# Altium integrated library Actel ProASIC3L.IntLib: 248 symbols (part 1 of 41)
Pins are listed as number, name and electrical type; pins without a type are passive.

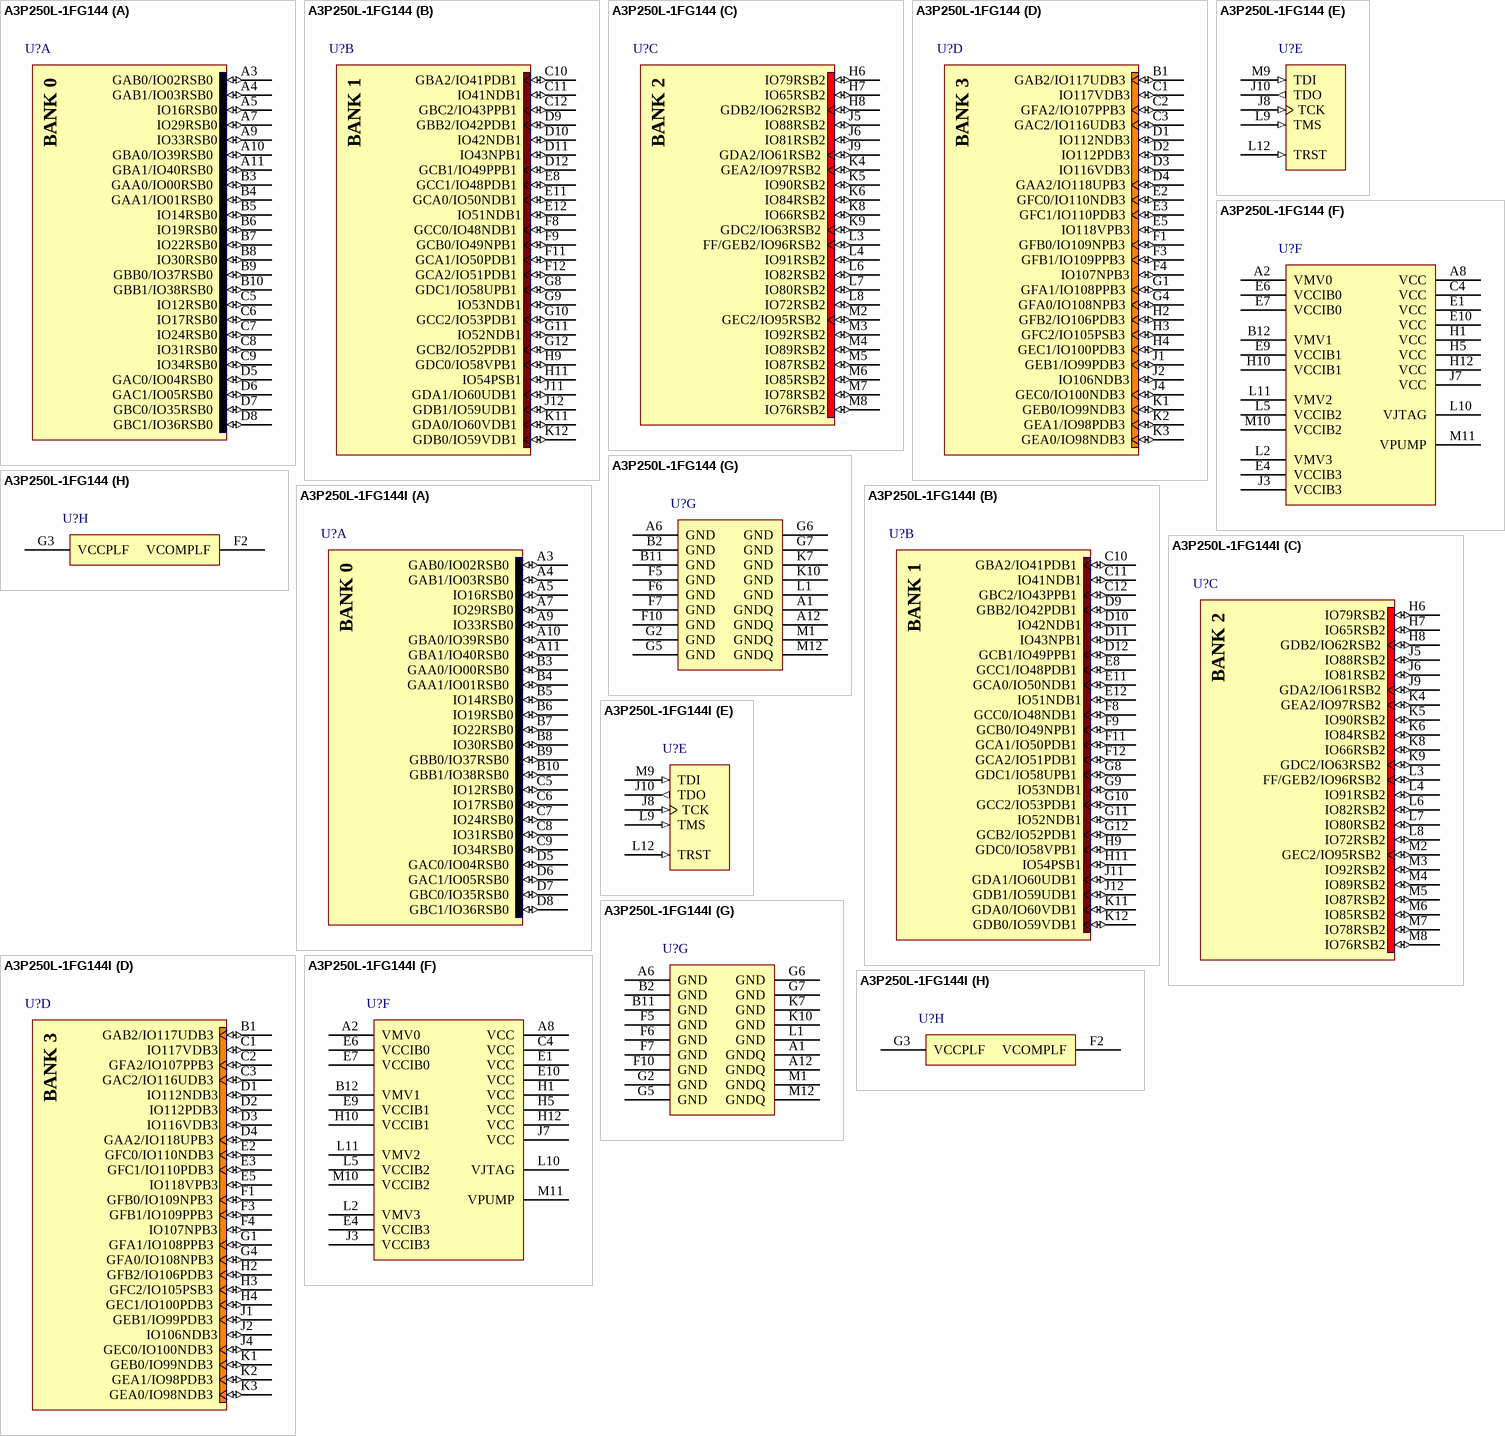
[diagram p0: symbols A3P250L-1FG144 to A3P250L-1FG144I]

## A3P250L-1FG144
designator U?
ProASIC3L Low-Power Flash Family FPGA, 97 User IOs, 250K System Gates, 36 Kbits RAM, 1 Kbit FlashROM, 1PLL, 144-Ball FBGA, Commercial Grade; Published: 30-May-2008; DatasheetVersion: Jan-2008; PackageVersion: v10.0, Mar-2008; PackageReference: FG144; Publisher: Altium Limited; PackageDescription: 144-Ball Fine Pitch Plastic Ball Grid Array (FG144); Code_JEDEC: MS-034-AAP-1; ComponentLink1Description: Manufacturer Link; ComponentLink1URL: http://www.actel.com/products/pa3l/default.aspx; ComponentLink2Description: Datasheet; ComponentLink2URL: http://www.actel.com/documents/PA3L_DS.pdf; ComponentLink3Description: Packaging Specification; ComponentLink3URL: http://www.actel.com/documents/PckgMechDrwngs.pdf
footprint FG144 (BGA, 144-Leads, Body 13x13mm, Pitch 1mm)
3D model A3P250L-FG144 (144-Ball Fine Pitch Plastic Ball Grid Array (FG144))
signal-integrity model A3P250L_FG144 (ProASIC3L)
part A pins: A3 GAB0/IO02RSB0 (io), A4 GAB1/IO03RSB0 (io), A5 IO16RSB0 (io), A7 IO29RSB0 (io), A9 IO33RSB0 (io), A10 GBA0/IO39RSB0 (io), A11 GBA1/IO40RSB0 (io), B3 GAA0/IO00RSB0 (io), B4 GAA1/IO01RSB0 (io), B5 IO14RSB0 (io), B6 IO19RSB0 (io), B7 IO22RSB0 (io), B8 IO30RSB0 (io), B9 GBB0/IO37RSB0 (io), B10 GBB1/IO38RSB0 (io), C5 IO12RSB0 (io), C6 IO17RSB0 (io), C7 IO24RSB0 (io), C8 IO31RSB0 (io), C9 IO34RSB0 (io), D5 GAC0/IO04RSB0 (io), D6 GAC1/IO05RSB0 (io), D7 GBC0/IO35RSB0 (io), D8 GBC1/IO36RSB0 (io)
part B pins: C10 GBA2/IO41PDB1 (io), C11 IO41NDB1 (io), C12 GBC2/IO43PPB1 (io), D9 GBB2/IO42PDB1 (io), D10 IO42NDB1 (io), D11 IO43NPB1 (io), D12 GCB1/IO49PPB1 (io), E8 GCC1/IO48PDB1 (io), E11 GCA0/IO50NDB1 (io), E12 IO51NDB1 (io), F8 GCC0/IO48NDB1 (io), F9 GCB0/IO49NPB1 (io), F11 GCA1/IO50PDB1 (io), F12 GCA2/IO51PDB1 (io), G8 GDC1/IO58UPB1 (io), G9 IO53NDB1 (io), G10 GCC2/IO53PDB1 (io), G11 IO52NDB1 (io), G12 GCB2/IO52PDB1 (io), H9 GDC0/IO58VPB1 (io), H11 IO54PSB1 (io), J11 GDA1/IO60UDB1 (io), J12 GDB1/IO59UDB1 (io), K11 GDA0/IO60VDB1 (io), K12 GDB0/IO59VDB1 (io)
part C pins: H6 IO79RSB2 (io), H7 IO65RSB2 (io), H8 GDB2/IO62RSB2 (io), J5 IO88RSB2 (io), J6 IO81RSB2 (io), J9 GDA2/IO61RSB2 (io), K4 GEA2/IO97RSB2 (io), K5 IO90RSB2 (io), K6 IO84RSB2 (io), K8 IO66RSB2 (io), K9 GDC2/IO63RSB2 (io), L3 FF/GEB2/IO96RSB2 (io), L4 IO91RSB2 (io), L6 IO82RSB2 (io), L7 IO80RSB2 (io), L8 IO72RSB2 (io), M2 GEC2/IO95RSB2 (io), M3 IO92RSB2 (io), M4 IO89RSB2 (io), M5 IO87RSB2 (io), M6 IO85RSB2 (io), M7 IO78RSB2 (io), M8 IO76RSB2 (io)
part D pins: B1 GAB2/IO117UDB3 (io), C1 IO117VDB3 (io), C2 GFA2/IO107PPB3 (io), C3 GAC2/IO116UDB3 (io), D1 IO112NDB3 (io), D2 IO112PDB3 (io), D3 IO116VDB3 (io), D4 GAA2/IO118UPB3 (io), E2 GFC0/IO110NDB3 (io), E3 GFC1/IO110PDB3 (io), E5 IO118VPB3 (io), F1 GFB0/IO109NPB3 (io), F3 GFB1/IO109PPB3 (io), F4 IO107NPB3 (io), G1 GFA1/IO108PPB3 (io), G4 GFA0/IO108NPB3 (io), H2 GFB2/IO106PDB3 (io), H3 GFC2/IO105PSB3 (io), H4 GEC1/IO100PDB3 (io), J1 GEB1/IO99PDB3 (io), J2 IO106NDB3 (io), J4 GEC0/IO100NDB3 (io), K1 GEB0/IO99NDB3 (io), K2 GEA1/IO98PDB3 (io), K3 GEA0/IO98NDB3 (io)
part E pins: J8 TCK (in), J10 TDO (out), L9 TMS (in), L12 TRST (in), M9 TDI (in)
part F pins: A2 VMV0 (power), A8 VCC (power), B12 VMV1 (power), C4 VCC (power), E1 VCC (power), E4 VCCIB3 (power), E6 VCCIB0 (power), E7 VCCIB0 (power), E9 VCCIB1 (power), E10 VCC (power), H1 VCC (power), H5 VCC (power), H10 VCCIB1 (power), H12 VCC (power), J3 VCCIB3 (power), J7 VCC (power), L2 VMV3 (power), L5 VCCIB2 (power), L10 VJTAG (power), L11 VMV2 (power), M10 VCCIB2 (power), M11 VPUMP (power)
part G pins: A1 GNDQ (power), A6 GND (power), A12 GNDQ (power), B2 GND (power), B11 GND (power), F5 GND (power), F6 GND (power), F7 GND (power), F10 GND (power), G2 GND (power), G5 GND (power), G6 GND (power), G7 GND (power), K7 GND (power), K10 GND (power), L1 GND (power), M1 GNDQ (power), M12 GNDQ (power)
part H pins: F2 VCOMPLF (power), G3 VCCPLF (power)
part A text: BANK 0
part B text: BANK 1
part C text: BANK 2
part D text: BANK 3

## A3P250L-1FG144I
designator U?
ProASIC3L Low-Power Flash Family FPGA, 97 User IOs, 250K System Gates, 36 Kbits RAM, 1 Kbit FlashROM, 1PLL, 144-Ball FBGA, Industrial Grade; Published: 30-May-2008; DatasheetVersion: Jan-2008; PackageVersion: v10.0, Mar-2008; PackageReference: FG144; Publisher: Altium Limited; PackageDescription: 144-Ball Fine Pitch Plastic Ball Grid Array (FG144); Code_JEDEC: MS-034-AAP-1; ComponentLink1Description: Manufacturer Link; ComponentLink1URL: http://www.actel.com/products/pa3l/default.aspx; ComponentLink2Description: Datasheet; ComponentLink2URL: http://www.actel.com/documents/PA3L_DS.pdf; ComponentLink3Description: Packaging Specification; ComponentLink3URL: http://www.actel.com/documents/PckgMechDrwngs.pdf
footprint FG144 (BGA, 144-Leads, Body 13x13mm, Pitch 1mm)
3D model A3P250L-FG144 (144-Ball Fine Pitch Plastic Ball Grid Array (FG144))
signal-integrity model A3P250L_FG144 (ProASIC3L)
part A pins: A3 GAB0/IO02RSB0 (io), A4 GAB1/IO03RSB0 (io), A5 IO16RSB0 (io), A7 IO29RSB0 (io), A9 IO33RSB0 (io), A10 GBA0/IO39RSB0 (io), A11 GBA1/IO40RSB0 (io), B3 GAA0/IO00RSB0 (io), B4 GAA1/IO01RSB0 (io), B5 IO14RSB0 (io), B6 IO19RSB0 (io), B7 IO22RSB0 (io), B8 IO30RSB0 (io), B9 GBB0/IO37RSB0 (io), B10 GBB1/IO38RSB0 (io), C5 IO12RSB0 (io), C6 IO17RSB0 (io), C7 IO24RSB0 (io), C8 IO31RSB0 (io), C9 IO34RSB0 (io), D5 GAC0/IO04RSB0 (io), D6 GAC1/IO05RSB0 (io), D7 GBC0/IO35RSB0 (io), D8 GBC1/IO36RSB0 (io)
part B pins: C10 GBA2/IO41PDB1 (io), C11 IO41NDB1 (io), C12 GBC2/IO43PPB1 (io), D9 GBB2/IO42PDB1 (io), D10 IO42NDB1 (io), D11 IO43NPB1 (io), D12 GCB1/IO49PPB1 (io), E8 GCC1/IO48PDB1 (io), E11 GCA0/IO50NDB1 (io), E12 IO51NDB1 (io), F8 GCC0/IO48NDB1 (io), F9 GCB0/IO49NPB1 (io), F11 GCA1/IO50PDB1 (io), F12 GCA2/IO51PDB1 (io), G8 GDC1/IO58UPB1 (io), G9 IO53NDB1 (io), G10 GCC2/IO53PDB1 (io), G11 IO52NDB1 (io), G12 GCB2/IO52PDB1 (io), H9 GDC0/IO58VPB1 (io), H11 IO54PSB1 (io), J11 GDA1/IO60UDB1 (io), J12 GDB1/IO59UDB1 (io), K11 GDA0/IO60VDB1 (io), K12 GDB0/IO59VDB1 (io)
part C pins: H6 IO79RSB2 (io), H7 IO65RSB2 (io), H8 GDB2/IO62RSB2 (io), J5 IO88RSB2 (io), J6 IO81RSB2 (io), J9 GDA2/IO61RSB2 (io), K4 GEA2/IO97RSB2 (io), K5 IO90RSB2 (io), K6 IO84RSB2 (io), K8 IO66RSB2 (io), K9 GDC2/IO63RSB2 (io), L3 FF/GEB2/IO96RSB2 (io), L4 IO91RSB2 (io), L6 IO82RSB2 (io), L7 IO80RSB2 (io), L8 IO72RSB2 (io), M2 GEC2/IO95RSB2 (io), M3 IO92RSB2 (io), M4 IO89RSB2 (io), M5 IO87RSB2 (io), M6 IO85RSB2 (io), M7 IO78RSB2 (io), M8 IO76RSB2 (io)
part D pins: B1 GAB2/IO117UDB3 (io), C1 IO117VDB3 (io), C2 GFA2/IO107PPB3 (io), C3 GAC2/IO116UDB3 (io), D1 IO112NDB3 (io), D2 IO112PDB3 (io), D3 IO116VDB3 (io), D4 GAA2/IO118UPB3 (io), E2 GFC0/IO110NDB3 (io), E3 GFC1/IO110PDB3 (io), E5 IO118VPB3 (io), F1 GFB0/IO109NPB3 (io), F3 GFB1/IO109PPB3 (io), F4 IO107NPB3 (io), G1 GFA1/IO108PPB3 (io), G4 GFA0/IO108NPB3 (io), H2 GFB2/IO106PDB3 (io), H3 GFC2/IO105PSB3 (io), H4 GEC1/IO100PDB3 (io), J1 GEB1/IO99PDB3 (io), J2 IO106NDB3 (io), J4 GEC0/IO100NDB3 (io), K1 GEB0/IO99NDB3 (io), K2 GEA1/IO98PDB3 (io), K3 GEA0/IO98NDB3 (io)
part E pins: J8 TCK (in), J10 TDO (out), L9 TMS (in), L12 TRST (in), M9 TDI (in)
part F pins: A2 VMV0 (power), A8 VCC (power), B12 VMV1 (power), C4 VCC (power), E1 VCC (power), E4 VCCIB3 (power), E6 VCCIB0 (power), E7 VCCIB0 (power), E9 VCCIB1 (power), E10 VCC (power), H1 VCC (power), H5 VCC (power), H10 VCCIB1 (power), H12 VCC (power), J3 VCCIB3 (power), J7 VCC (power), L2 VMV3 (power), L5 VCCIB2 (power), L10 VJTAG (power), L11 VMV2 (power), M10 VCCIB2 (power), M11 VPUMP (power)
part G pins: A1 GNDQ (power), A6 GND (power), A12 GNDQ (power), B2 GND (power), B11 GND (power), F5 GND (power), F6 GND (power), F7 GND (power), F10 GND (power), G2 GND (power), G5 GND (power), G6 GND (power), G7 GND (power), K7 GND (power), K10 GND (power), L1 GND (power), M1 GNDQ (power), M12 GNDQ (power)
part H pins: F2 VCOMPLF (power), G3 VCCPLF (power)
part A text: BANK 0
part B text: BANK 1
part C text: BANK 2
part D text: BANK 3

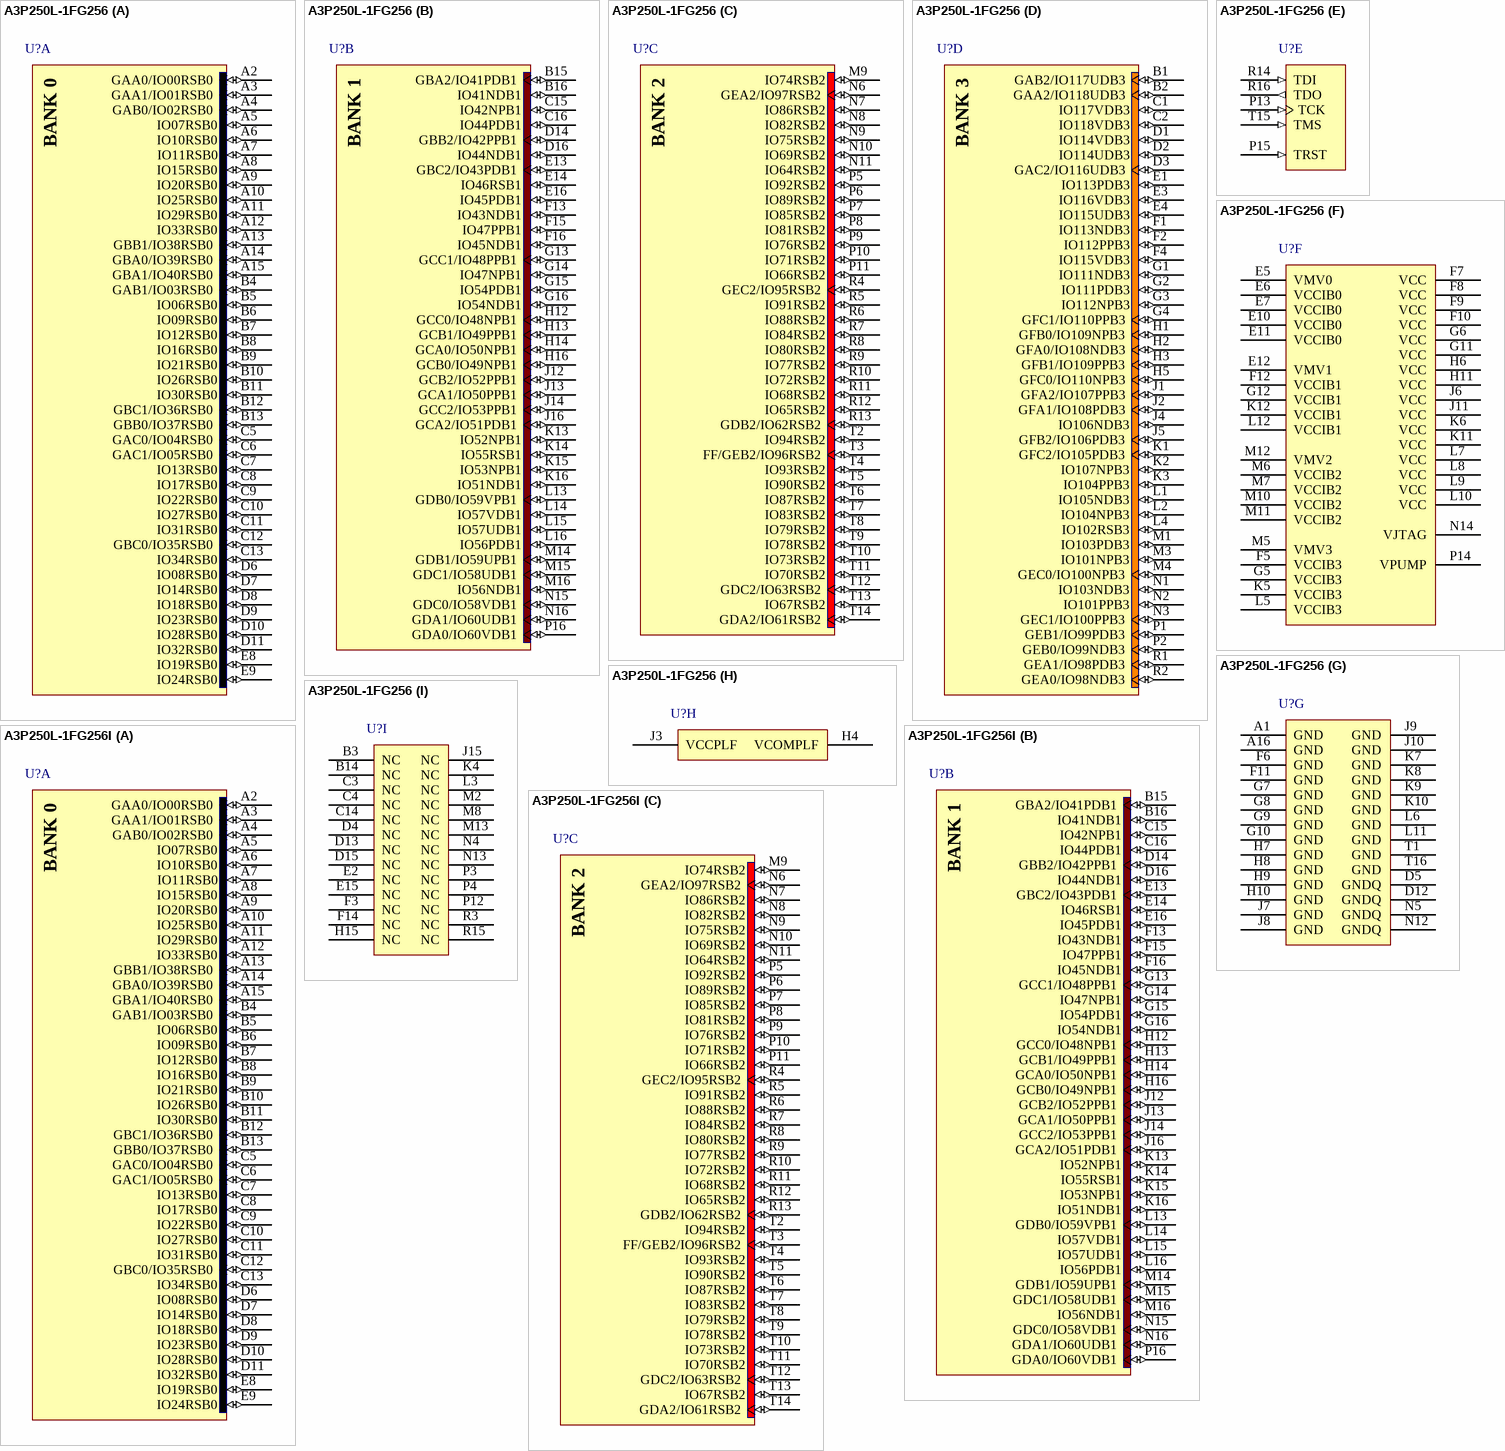
[diagram p1: symbols A3P250L-1FG256 to A3P250L-1FG256I]

## A3P250L-1FG256
designator U?
ProASIC3L Low-Power Flash Family FPGA, 157 User IOs, 250K System Gates, 36 Kbits RAM, 1 Kbit FlashROM, 1PLL, 256-Ball FBGA, Commercial Grade; Published: 30-May-2008; DatasheetVersion: Jan-2008; PackageVersion: v10.0, Mar-2008; PackageReference: FG256; Publisher: Altium Limited; PackageDescription: 256-Ball Fine Pitch Plastic Ball Grid Array (FG256); Code_JEDEC: MO-192-DAF-1; ComponentLink1Description: Manufacturer Link; ComponentLink1URL: http://www.actel.com/products/pa3l/default.aspx; ComponentLink2Description: Datasheet; ComponentLink2URL: http://www.actel.com/documents/PA3L_DS.pdf; ComponentLink3Description: Packaging Specification; ComponentLink3URL: http://www.actel.com/documents/PckgMechDrwngs.pdf
footprint FG256 (BGA, 256-Leads, Body 17x17mm, Pitch 1mm)
3D model A3P250L-FG256 (256-Ball Fine Pitch Plastic Ball Grid Array (FG256))
signal-integrity model A3P250L_FG256 (ProASIC3L)
part A pins: A2 GAA0/IO00RSB0 (io), A3 GAA1/IO01RSB0 (io), A4 GAB0/IO02RSB0 (io), A5 IO07RSB0 (io), A6 IO10RSB0 (io), A7 IO11RSB0 (io), A8 IO15RSB0 (io), A9 IO20RSB0 (io), A10 IO25RSB0 (io), A11 IO29RSB0 (io), A12 IO33RSB0 (io), A13 GBB1/IO38RSB0 (io), A14 GBA0/IO39RSB0 (io), A15 GBA1/IO40RSB0 (io), B4 GAB1/IO03RSB0 (io), B5 IO06RSB0 (io), B6 IO09RSB0 (io), B7 IO12RSB0 (io), B8 IO16RSB0 (io), B9 IO21RSB0 (io), B10 IO26RSB0 (io), B11 IO30RSB0 (io), B12 GBC1/IO36RSB0 (io), B13 GBB0/IO37RSB0 (io), C5 GAC0/IO04RSB0 (io), C6 GAC1/IO05RSB0 (io), C7 IO13RSB0 (io), C8 IO17RSB0 (io), C9 IO22RSB0 (io), C10 IO27RSB0 (io), C11 IO31RSB0 (io), C12 GBC0/IO35RSB0 (io), C13 IO34RSB0 (io), D6 IO08RSB0 (io), D7 IO14RSB0 (io), D8 IO18RSB0 (io), D9 IO23RSB0 (io), D10 IO28RSB0 (io), D11 IO32RSB0 (io), E8 IO19RSB0 (io), E9 IO24RSB0 (io)
part B pins: B15 GBA2/IO41PDB1 (io), B16 IO41NDB1 (io), C15 IO42NPB1 (io), C16 IO44PDB1 (io), D14 GBB2/IO42PPB1 (io), D16 IO44NDB1 (io), E13 GBC2/IO43PDB1 (io), E14 IO46RSB1 (io), E16 IO45PDB1 (io), F13 IO43NDB1 (io), F15 IO47PPB1 (io), F16 IO45NDB1 (io), G13 GCC1/IO48PPB1 (io), G14 IO47NPB1 (io), G15 IO54PDB1 (io), G16 IO54NDB1 (io), H12 GCC0/IO48NPB1 (io), H13 GCB1/IO49PPB1 (io), H14 GCA0/IO50NPB1 (io), H16 GCB0/IO49NPB1 (io), J12 GCB2/IO52PPB1 (io), J13 GCA1/IO50PPB1 (io), J14 GCC2/IO53PPB1 (io), J16 GCA2/IO51PDB1 (io), K13 IO52NPB1 (io), K14 IO55RSB1 (io), K15 IO53NPB1 (io), K16 IO51NDB1 (io), L13 GDB0/IO59VPB1 (io), L14 IO57VDB1 (io), L15 IO57UDB1 (io), L16 IO56PDB1 (io), M14 GDB1/IO59UPB1 (io), M15 GDC1/IO58UDB1 (io), M16 IO56NDB1 (io), N15 GDC0/IO58VDB1 (io), N16 GDA1/IO60UDB1 (io), P16 GDA0/IO60VDB1 (io)
part C pins: M9 IO74RSB2 (io), N6 GEA2/IO97RSB2 (io), N7 IO86RSB2 (io), N8 IO82RSB2 (io), N9 IO75RSB2 (io), N10 IO69RSB2 (io), N11 IO64RSB2 (io), P5 IO92RSB2 (io), P6 IO89RSB2 (io), P7 IO85RSB2 (io), P8 IO81RSB2 (io), P9 IO76RSB2 (io), P10 IO71RSB2 (io), P11 IO66RSB2 (io), R4 GEC2/IO95RSB2 (io), R5 IO91RSB2 (io), R6 IO88RSB2 (io), R7 IO84RSB2 (io), R8 IO80RSB2 (io), R9 IO77RSB2 (io), R10 IO72RSB2 (io), R11 IO68RSB2 (io), R12 IO65RSB2 (io), R13 GDB2/IO62RSB2 (io), T2 IO94RSB2 (io), T3 FF/GEB2/IO96RSB2 (io), T4 IO93RSB2 (io), T5 IO90RSB2 (io), T6 IO87RSB2 (io), T7 IO83RSB2 (io), T8 IO79RSB2 (io), T9 IO78RSB2 (io), T10 IO73RSB2 (io), T11 IO70RSB2 (io), T12 GDC2/IO63RSB2 (io), T13 IO67RSB2 (io), T14 GDA2/IO61RSB2 (io)
part D pins: B1 GAB2/IO117UDB3 (io), B2 GAA2/IO118UDB3 (io), C1 IO117VDB3 (io), C2 IO118VDB3 (io), D1 IO114VDB3 (io), D2 IO114UDB3 (io), D3 GAC2/IO116UDB3 (io), E1 IO113PDB3 (io), E3 IO116VDB3 (io), E4 IO115UDB3 (io), F1 IO113NDB3 (io), F2 IO112PPB3 (io), F4 IO115VDB3 (io), G1 IO111NDB3 (io), G2 IO111PDB3 (io), G3 IO112NPB3 (io), G4 GFC1/IO110PPB3 (io), H1 GFB0/IO109NPB3 (io), H2 GFA0/IO108NDB3 (io), H3 GFB1/IO109PPB3 (io), H5 GFC0/IO110NPB3 (io), J1 GFA2/IO107PPB3 (io), J2 GFA1/IO108PDB3 (io), J4 IO106NDB3 (io), J5 GFB2/IO106PDB3 (io), K1 GFC2/IO105PDB3 (io), K2 IO107NPB3 (io), K3 IO104PPB3 (io), L1 IO105NDB3 (io), L2 IO104NPB3 (io), L4 IO102RSB3 (io), M1 IO103PDB3 (io), M3 IO101NPB3 (io), M4 GEC0/IO100NPB3 (io), N1 IO103NDB3 (io), N2 IO101PPB3 (io), N3 GEC1/IO100PPB3 (io), P1 GEB1/IO99PDB3 (io), P2 GEB0/IO99NDB3 (io), R1 GEA1/IO98PDB3 (io), R2 GEA0/IO98NDB3 (io)
part E pins: P13 TCK (in), P15 TRST (in), R14 TDI (in), R16 TDO (out), T15 TMS (in)
part F pins: E5 VMV0 (power), E6 VCCIB0 (power), E7 VCCIB0 (power), E10 VCCIB0 (power), E11 VCCIB0 (power), E12 VMV1 (power), F5 VCCIB3 (power), F7 VCC (power), F8 VCC (power), F9 VCC (power), F10 VCC (power), F12 VCCIB1 (power), G5 VCCIB3 (power), G6 VCC (power), G11 VCC (power), G12 VCCIB1 (power), H6 VCC (power), H11 VCC (power), J6 VCC (power), J11 VCC (power), K5 VCCIB3 (power), K6 VCC (power), K11 VCC (power), K12 VCCIB1 (power), L5 VCCIB3 (power), L7 VCC (power), L8 VCC (power), L9 VCC (power), L10 VCC (power), L12 VCCIB1 (power), M5 VMV3 (power), M6 VCCIB2 (power), M7 VCCIB2 (power), M10 VCCIB2 (power), M11 VCCIB2 (power), M12 VMV2 (power), N14 VJTAG (power), P14 VPUMP (power)
part G pins: A1 GND (power), A16 GND (power), D5 GNDQ (power), D12 GNDQ (power), F6 GND (power), F11 GND (power), G7 GND (power), G8 GND (power), G9 GND (power), G10 GND (power), H7 GND (power), H8 GND (power), H9 GND (power), H10 GND (power), J7 GND (power), J8 GND (power), J9 GND (power), J10 GND (power), K7 GND (power), K8 GND (power), K9 GND (power), K10 GND (power), L6 GND (power), L11 GND (power), N5 GNDQ (power), N12 GNDQ (power), T1 GND (power), T16 GND (power)
part H pins: H4 VCOMPLF (power), J3 VCCPLF (power)
part I pins: B3 NC, B14 NC, C3 NC, C4 NC, C14 NC, D4 NC, D13 NC, D15 NC, E2 NC, E15 NC, F3 NC, F14 NC, H15 NC, J15 NC, K4 NC, L3 NC, M2 NC, M8 NC, M13 NC, N4 NC, N13 NC, P3 NC, P4 NC, P12 NC, R3 NC, R15 NC
part A text: BANK 0
part B text: BANK 1
part C text: BANK 2
part D text: BANK 3

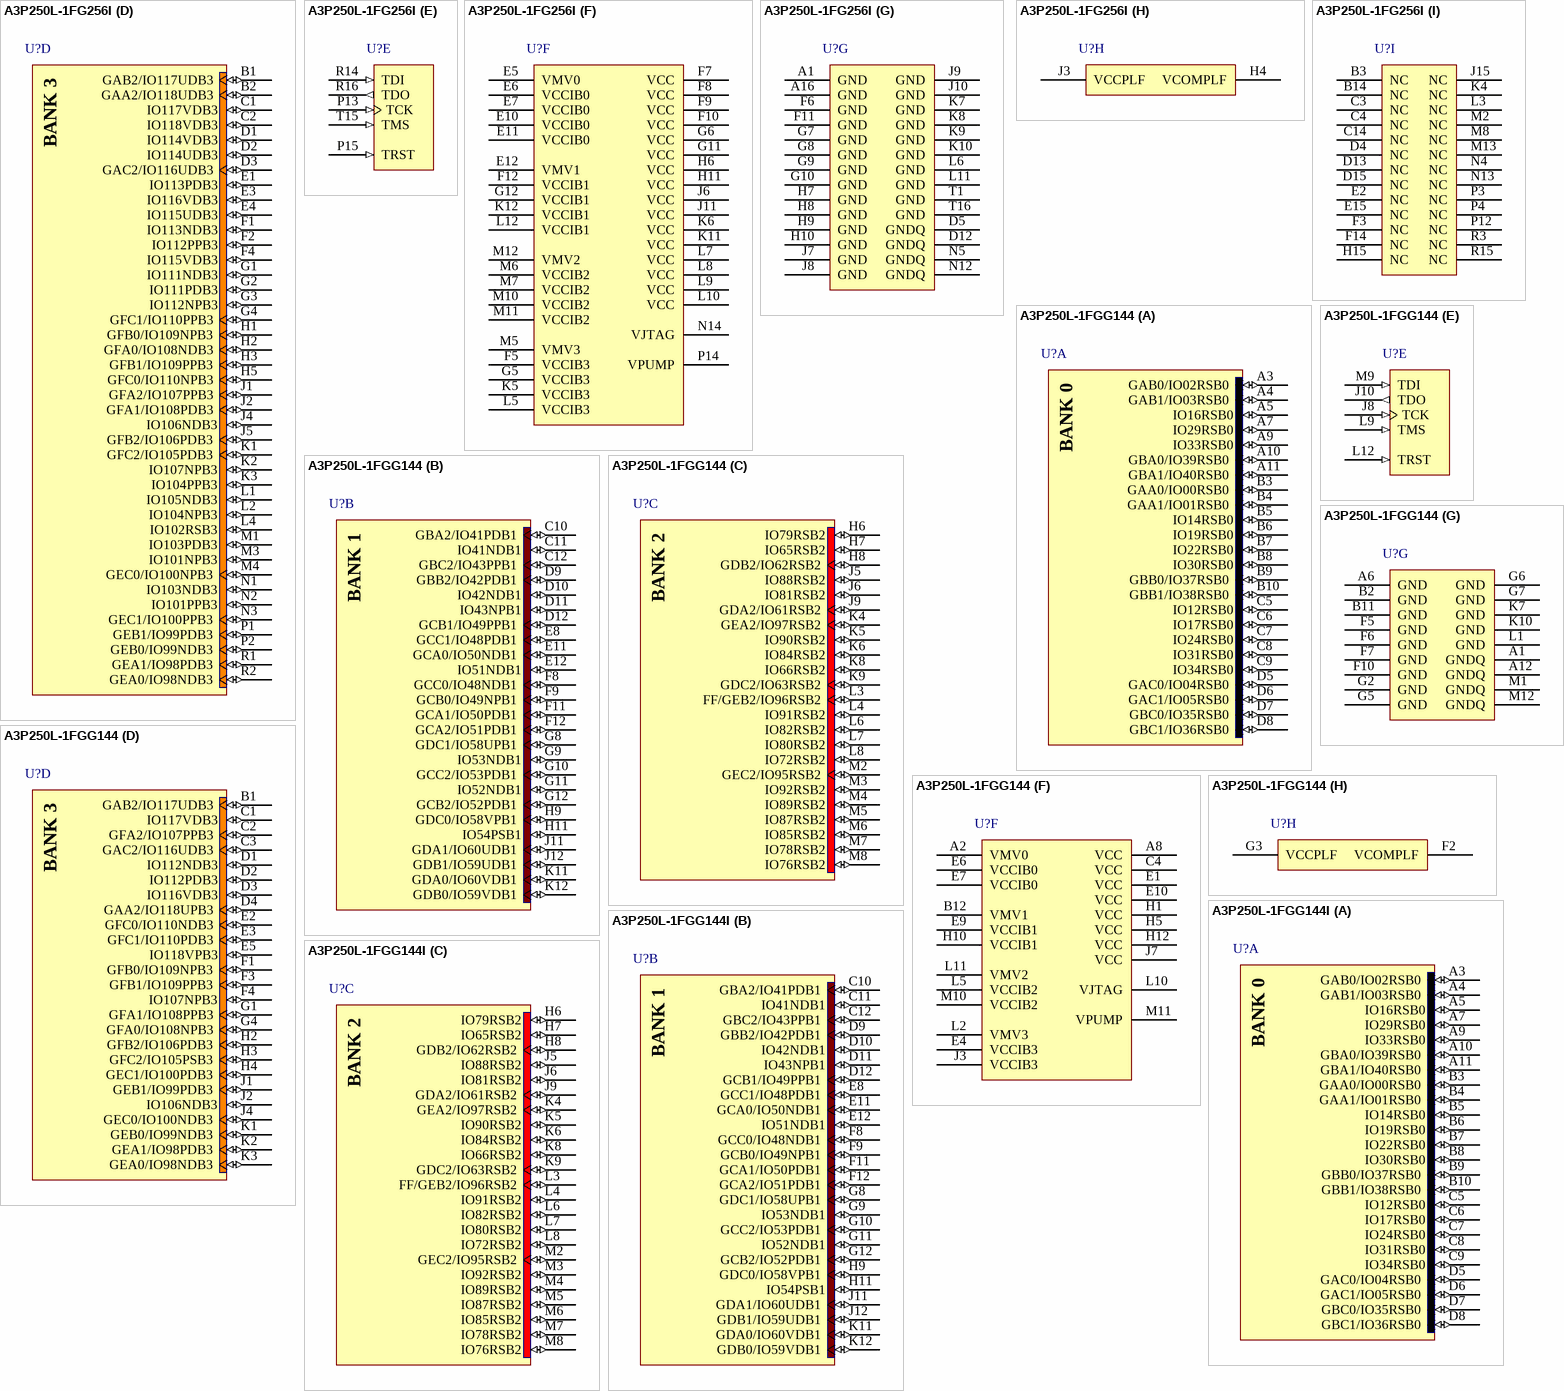
[diagram p2: symbols A3P250L-1FG256I to A3P250L-1FGG144I]

## A3P250L-1FG256I
designator U?
ProASIC3L Low-Power Flash Family FPGA, 157 User IOs, 250K System Gates, 36 Kbits RAM, 1 Kbit FlashROM, 1PLL, 256-Ball FBGA, Industrial Grade; Published: 30-May-2008; DatasheetVersion: Jan-2008; PackageVersion: v10.0, Mar-2008; PackageReference: FG256; Publisher: Altium Limited; PackageDescription: 256-Ball Fine Pitch Plastic Ball Grid Array (FG256); Code_JEDEC: MO-192-DAF-1; ComponentLink1Description: Manufacturer Link; ComponentLink1URL: http://www.actel.com/products/pa3l/default.aspx; ComponentLink2Description: Datasheet; ComponentLink2URL: http://www.actel.com/documents/PA3L_DS.pdf; ComponentLink3Description: Packaging Specification; ComponentLink3URL: http://www.actel.com/documents/PckgMechDrwngs.pdf
footprint FG256 (BGA, 256-Leads, Body 17x17mm, Pitch 1mm)
3D model A3P250L-FG256 (256-Ball Fine Pitch Plastic Ball Grid Array (FG256))
signal-integrity model A3P250L_FG256 (ProASIC3L)
part A pins: A2 GAA0/IO00RSB0 (io), A3 GAA1/IO01RSB0 (io), A4 GAB0/IO02RSB0 (io), A5 IO07RSB0 (io), A6 IO10RSB0 (io), A7 IO11RSB0 (io), A8 IO15RSB0 (io), A9 IO20RSB0 (io), A10 IO25RSB0 (io), A11 IO29RSB0 (io), A12 IO33RSB0 (io), A13 GBB1/IO38RSB0 (io), A14 GBA0/IO39RSB0 (io), A15 GBA1/IO40RSB0 (io), B4 GAB1/IO03RSB0 (io), B5 IO06RSB0 (io), B6 IO09RSB0 (io), B7 IO12RSB0 (io), B8 IO16RSB0 (io), B9 IO21RSB0 (io), B10 IO26RSB0 (io), B11 IO30RSB0 (io), B12 GBC1/IO36RSB0 (io), B13 GBB0/IO37RSB0 (io), C5 GAC0/IO04RSB0 (io), C6 GAC1/IO05RSB0 (io), C7 IO13RSB0 (io), C8 IO17RSB0 (io), C9 IO22RSB0 (io), C10 IO27RSB0 (io), C11 IO31RSB0 (io), C12 GBC0/IO35RSB0 (io), C13 IO34RSB0 (io), D6 IO08RSB0 (io), D7 IO14RSB0 (io), D8 IO18RSB0 (io), D9 IO23RSB0 (io), D10 IO28RSB0 (io), D11 IO32RSB0 (io), E8 IO19RSB0 (io), E9 IO24RSB0 (io)
part B pins: B15 GBA2/IO41PDB1 (io), B16 IO41NDB1 (io), C15 IO42NPB1 (io), C16 IO44PDB1 (io), D14 GBB2/IO42PPB1 (io), D16 IO44NDB1 (io), E13 GBC2/IO43PDB1 (io), E14 IO46RSB1 (io), E16 IO45PDB1 (io), F13 IO43NDB1 (io), F15 IO47PPB1 (io), F16 IO45NDB1 (io), G13 GCC1/IO48PPB1 (io), G14 IO47NPB1 (io), G15 IO54PDB1 (io), G16 IO54NDB1 (io), H12 GCC0/IO48NPB1 (io), H13 GCB1/IO49PPB1 (io), H14 GCA0/IO50NPB1 (io), H16 GCB0/IO49NPB1 (io), J12 GCB2/IO52PPB1 (io), J13 GCA1/IO50PPB1 (io), J14 GCC2/IO53PPB1 (io), J16 GCA2/IO51PDB1 (io), K13 IO52NPB1 (io), K14 IO55RSB1 (io), K15 IO53NPB1 (io), K16 IO51NDB1 (io), L13 GDB0/IO59VPB1 (io), L14 IO57VDB1 (io), L15 IO57UDB1 (io), L16 IO56PDB1 (io), M14 GDB1/IO59UPB1 (io), M15 GDC1/IO58UDB1 (io), M16 IO56NDB1 (io), N15 GDC0/IO58VDB1 (io), N16 GDA1/IO60UDB1 (io), P16 GDA0/IO60VDB1 (io)
part C pins: M9 IO74RSB2 (io), N6 GEA2/IO97RSB2 (io), N7 IO86RSB2 (io), N8 IO82RSB2 (io), N9 IO75RSB2 (io), N10 IO69RSB2 (io), N11 IO64RSB2 (io), P5 IO92RSB2 (io), P6 IO89RSB2 (io), P7 IO85RSB2 (io), P8 IO81RSB2 (io), P9 IO76RSB2 (io), P10 IO71RSB2 (io), P11 IO66RSB2 (io), R4 GEC2/IO95RSB2 (io), R5 IO91RSB2 (io), R6 IO88RSB2 (io), R7 IO84RSB2 (io), R8 IO80RSB2 (io), R9 IO77RSB2 (io), R10 IO72RSB2 (io), R11 IO68RSB2 (io), R12 IO65RSB2 (io), R13 GDB2/IO62RSB2 (io), T2 IO94RSB2 (io), T3 FF/GEB2/IO96RSB2 (io), T4 IO93RSB2 (io), T5 IO90RSB2 (io), T6 IO87RSB2 (io), T7 IO83RSB2 (io), T8 IO79RSB2 (io), T9 IO78RSB2 (io), T10 IO73RSB2 (io), T11 IO70RSB2 (io), T12 GDC2/IO63RSB2 (io), T13 IO67RSB2 (io), T14 GDA2/IO61RSB2 (io)
part D pins: B1 GAB2/IO117UDB3 (io), B2 GAA2/IO118UDB3 (io), C1 IO117VDB3 (io), C2 IO118VDB3 (io), D1 IO114VDB3 (io), D2 IO114UDB3 (io), D3 GAC2/IO116UDB3 (io), E1 IO113PDB3 (io), E3 IO116VDB3 (io), E4 IO115UDB3 (io), F1 IO113NDB3 (io), F2 IO112PPB3 (io), F4 IO115VDB3 (io), G1 IO111NDB3 (io), G2 IO111PDB3 (io), G3 IO112NPB3 (io), G4 GFC1/IO110PPB3 (io), H1 GFB0/IO109NPB3 (io), H2 GFA0/IO108NDB3 (io), H3 GFB1/IO109PPB3 (io), H5 GFC0/IO110NPB3 (io), J1 GFA2/IO107PPB3 (io), J2 GFA1/IO108PDB3 (io), J4 IO106NDB3 (io), J5 GFB2/IO106PDB3 (io), K1 GFC2/IO105PDB3 (io), K2 IO107NPB3 (io), K3 IO104PPB3 (io), L1 IO105NDB3 (io), L2 IO104NPB3 (io), L4 IO102RSB3 (io), M1 IO103PDB3 (io), M3 IO101NPB3 (io), M4 GEC0/IO100NPB3 (io), N1 IO103NDB3 (io), N2 IO101PPB3 (io), N3 GEC1/IO100PPB3 (io), P1 GEB1/IO99PDB3 (io), P2 GEB0/IO99NDB3 (io), R1 GEA1/IO98PDB3 (io), R2 GEA0/IO98NDB3 (io)
part E pins: P13 TCK (in), P15 TRST (in), R14 TDI (in), R16 TDO (out), T15 TMS (in)
part F pins: E5 VMV0 (power), E6 VCCIB0 (power), E7 VCCIB0 (power), E10 VCCIB0 (power), E11 VCCIB0 (power), E12 VMV1 (power), F5 VCCIB3 (power), F7 VCC (power), F8 VCC (power), F9 VCC (power), F10 VCC (power), F12 VCCIB1 (power), G5 VCCIB3 (power), G6 VCC (power), G11 VCC (power), G12 VCCIB1 (power), H6 VCC (power), H11 VCC (power), J6 VCC (power), J11 VCC (power), K5 VCCIB3 (power), K6 VCC (power), K11 VCC (power), K12 VCCIB1 (power), L5 VCCIB3 (power), L7 VCC (power), L8 VCC (power), L9 VCC (power), L10 VCC (power), L12 VCCIB1 (power), M5 VMV3 (power), M6 VCCIB2 (power), M7 VCCIB2 (power), M10 VCCIB2 (power), M11 VCCIB2 (power), M12 VMV2 (power), N14 VJTAG (power), P14 VPUMP (power)
part G pins: A1 GND (power), A16 GND (power), D5 GNDQ (power), D12 GNDQ (power), F6 GND (power), F11 GND (power), G7 GND (power), G8 GND (power), G9 GND (power), G10 GND (power), H7 GND (power), H8 GND (power), H9 GND (power), H10 GND (power), J7 GND (power), J8 GND (power), J9 GND (power), J10 GND (power), K7 GND (power), K8 GND (power), K9 GND (power), K10 GND (power), L6 GND (power), L11 GND (power), N5 GNDQ (power), N12 GNDQ (power), T1 GND (power), T16 GND (power)
part H pins: H4 VCOMPLF (power), J3 VCCPLF (power)
part I pins: B3 NC, B14 NC, C3 NC, C4 NC, C14 NC, D4 NC, D13 NC, D15 NC, E2 NC, E15 NC, F3 NC, F14 NC, H15 NC, J15 NC, K4 NC, L3 NC, M2 NC, M8 NC, M13 NC, N4 NC, N13 NC, P3 NC, P4 NC, P12 NC, R3 NC, R15 NC
part A text: BANK 0
part B text: BANK 1
part C text: BANK 2
part D text: BANK 3

## A3P250L-1FGG144
designator U?
ProASIC3L Low-Power Flash Family FPGA, 97 User IOs, 250K System Gates, 36 Kbits RAM, 1 Kbit FlashROM, 1PLL, 144-Ball FBGA, Commercial Grade, Pb-Free; Published: 30-May-2008; DatasheetVersion: Jan-2008; PackageVersion: v10.0, Mar-2008; PackageReference: FG144; Publisher: Altium Limited; PackageDescription: 144-Ball Fine Pitch Plastic Ball Grid Array (FG144); Code_JEDEC: MS-034-AAP-1; ComponentLink1Description: Manufacturer Link; ComponentLink1URL: http://www.actel.com/products/pa3l/default.aspx; ComponentLink2Description: Datasheet; ComponentLink2URL: http://www.actel.com/documents/PA3L_DS.pdf; ComponentLink3Description: Packaging Specification; ComponentLink3URL: http://www.actel.com/documents/PckgMechDrwngs.pdf
footprint FG144 (BGA, 144-Leads, Body 13x13mm, Pitch 1mm)
3D model A3P250L-FG144 (144-Ball Fine Pitch Plastic Ball Grid Array (FG144))
signal-integrity model A3P250L_FG144 (ProASIC3L)
part A pins: A3 GAB0/IO02RSB0 (io), A4 GAB1/IO03RSB0 (io), A5 IO16RSB0 (io), A7 IO29RSB0 (io), A9 IO33RSB0 (io), A10 GBA0/IO39RSB0 (io), A11 GBA1/IO40RSB0 (io), B3 GAA0/IO00RSB0 (io), B4 GAA1/IO01RSB0 (io), B5 IO14RSB0 (io), B6 IO19RSB0 (io), B7 IO22RSB0 (io), B8 IO30RSB0 (io), B9 GBB0/IO37RSB0 (io), B10 GBB1/IO38RSB0 (io), C5 IO12RSB0 (io), C6 IO17RSB0 (io), C7 IO24RSB0 (io), C8 IO31RSB0 (io), C9 IO34RSB0 (io), D5 GAC0/IO04RSB0 (io), D6 GAC1/IO05RSB0 (io), D7 GBC0/IO35RSB0 (io), D8 GBC1/IO36RSB0 (io)
part B pins: C10 GBA2/IO41PDB1 (io), C11 IO41NDB1 (io), C12 GBC2/IO43PPB1 (io), D9 GBB2/IO42PDB1 (io), D10 IO42NDB1 (io), D11 IO43NPB1 (io), D12 GCB1/IO49PPB1 (io), E8 GCC1/IO48PDB1 (io), E11 GCA0/IO50NDB1 (io), E12 IO51NDB1 (io), F8 GCC0/IO48NDB1 (io), F9 GCB0/IO49NPB1 (io), F11 GCA1/IO50PDB1 (io), F12 GCA2/IO51PDB1 (io), G8 GDC1/IO58UPB1 (io), G9 IO53NDB1 (io), G10 GCC2/IO53PDB1 (io), G11 IO52NDB1 (io), G12 GCB2/IO52PDB1 (io), H9 GDC0/IO58VPB1 (io), H11 IO54PSB1 (io), J11 GDA1/IO60UDB1 (io), J12 GDB1/IO59UDB1 (io), K11 GDA0/IO60VDB1 (io), K12 GDB0/IO59VDB1 (io)
part C pins: H6 IO79RSB2 (io), H7 IO65RSB2 (io), H8 GDB2/IO62RSB2 (io), J5 IO88RSB2 (io), J6 IO81RSB2 (io), J9 GDA2/IO61RSB2 (io), K4 GEA2/IO97RSB2 (io), K5 IO90RSB2 (io), K6 IO84RSB2 (io), K8 IO66RSB2 (io), K9 GDC2/IO63RSB2 (io), L3 FF/GEB2/IO96RSB2 (io), L4 IO91RSB2 (io), L6 IO82RSB2 (io), L7 IO80RSB2 (io), L8 IO72RSB2 (io), M2 GEC2/IO95RSB2 (io), M3 IO92RSB2 (io), M4 IO89RSB2 (io), M5 IO87RSB2 (io), M6 IO85RSB2 (io), M7 IO78RSB2 (io), M8 IO76RSB2 (io)
part D pins: B1 GAB2/IO117UDB3 (io), C1 IO117VDB3 (io), C2 GFA2/IO107PPB3 (io), C3 GAC2/IO116UDB3 (io), D1 IO112NDB3 (io), D2 IO112PDB3 (io), D3 IO116VDB3 (io), D4 GAA2/IO118UPB3 (io), E2 GFC0/IO110NDB3 (io), E3 GFC1/IO110PDB3 (io), E5 IO118VPB3 (io), F1 GFB0/IO109NPB3 (io), F3 GFB1/IO109PPB3 (io), F4 IO107NPB3 (io), G1 GFA1/IO108PPB3 (io), G4 GFA0/IO108NPB3 (io), H2 GFB2/IO106PDB3 (io), H3 GFC2/IO105PSB3 (io), H4 GEC1/IO100PDB3 (io), J1 GEB1/IO99PDB3 (io), J2 IO106NDB3 (io), J4 GEC0/IO100NDB3 (io), K1 GEB0/IO99NDB3 (io), K2 GEA1/IO98PDB3 (io), K3 GEA0/IO98NDB3 (io)
part E pins: J8 TCK (in), J10 TDO (out), L9 TMS (in), L12 TRST (in), M9 TDI (in)
part F pins: A2 VMV0 (power), A8 VCC (power), B12 VMV1 (power), C4 VCC (power), E1 VCC (power), E4 VCCIB3 (power), E6 VCCIB0 (power), E7 VCCIB0 (power), E9 VCCIB1 (power), E10 VCC (power), H1 VCC (power), H5 VCC (power), H10 VCCIB1 (power), H12 VCC (power), J3 VCCIB3 (power), J7 VCC (power), L2 VMV3 (power), L5 VCCIB2 (power), L10 VJTAG (power), L11 VMV2 (power), M10 VCCIB2 (power), M11 VPUMP (power)
part G pins: A1 GNDQ (power), A6 GND (power), A12 GNDQ (power), B2 GND (power), B11 GND (power), F5 GND (power), F6 GND (power), F7 GND (power), F10 GND (power), G2 GND (power), G5 GND (power), G6 GND (power), G7 GND (power), K7 GND (power), K10 GND (power), L1 GND (power), M1 GNDQ (power), M12 GNDQ (power)
part H pins: F2 VCOMPLF (power), G3 VCCPLF (power)
part A text: BANK 0
part B text: BANK 1
part C text: BANK 2
part D text: BANK 3

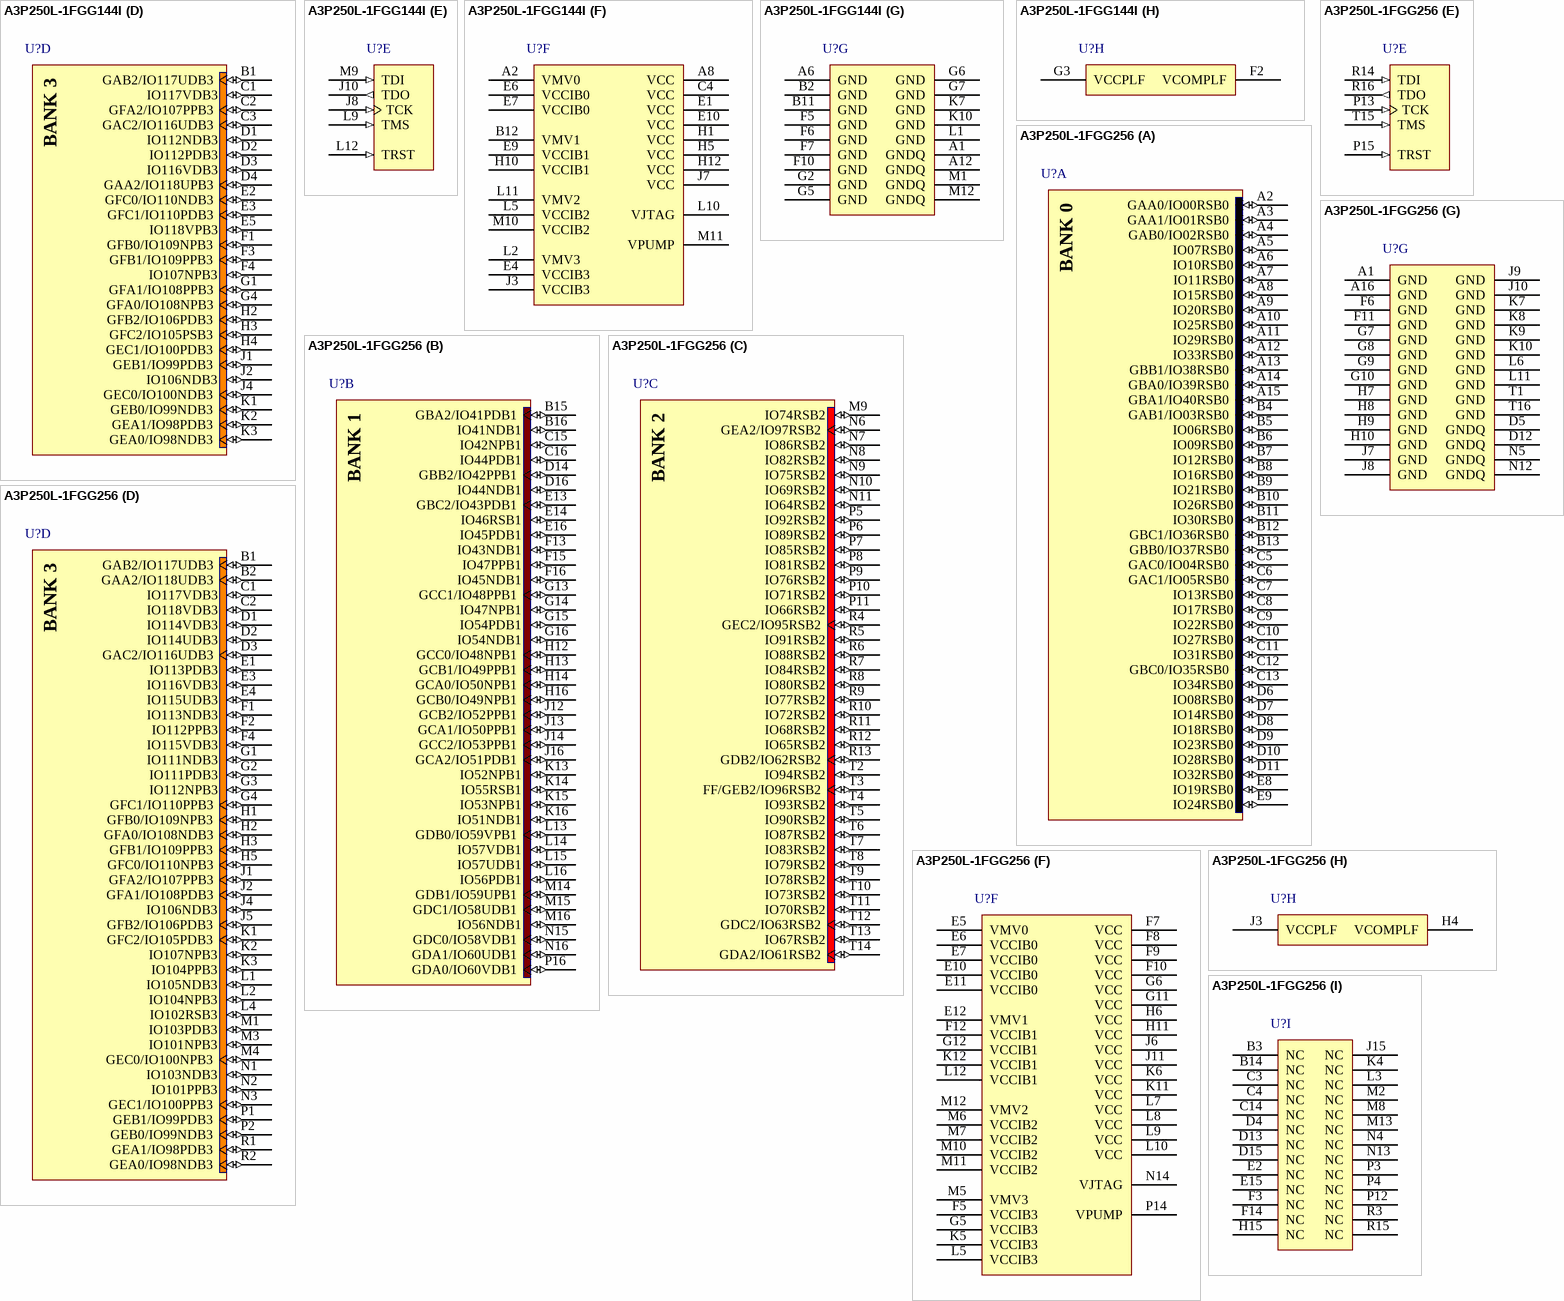
[diagram p3: symbols A3P250L-1FGG144I to A3P250L-1FGG256]

## A3P250L-1FGG144I
designator U?
ProASIC3L Low-Power Flash Family FPGA, 97 User IOs, 250K System Gates, 36 Kbits RAM, 1 Kbit FlashROM, 1PLL, 144-Ball FBGA, Industrial Grade, Pb-Free; Published: 30-May-2008; DatasheetVersion: Jan-2008; PackageVersion: v10.0, Mar-2008; PackageReference: FG144; Publisher: Altium Limited; PackageDescription: 144-Ball Fine Pitch Plastic Ball Grid Array (FG144); Code_JEDEC: MS-034-AAP-1; ComponentLink1Description: Manufacturer Link; ComponentLink1URL: http://www.actel.com/products/pa3l/default.aspx; ComponentLink2Description: Datasheet; ComponentLink2URL: http://www.actel.com/documents/PA3L_DS.pdf; ComponentLink3Description: Packaging Specification; ComponentLink3URL: http://www.actel.com/documents/PckgMechDrwngs.pdf
footprint FG144 (BGA, 144-Leads, Body 13x13mm, Pitch 1mm)
3D model A3P250L-FG144 (144-Ball Fine Pitch Plastic Ball Grid Array (FG144))
signal-integrity model A3P250L_FG144 (ProASIC3L)
part A pins: A3 GAB0/IO02RSB0 (io), A4 GAB1/IO03RSB0 (io), A5 IO16RSB0 (io), A7 IO29RSB0 (io), A9 IO33RSB0 (io), A10 GBA0/IO39RSB0 (io), A11 GBA1/IO40RSB0 (io), B3 GAA0/IO00RSB0 (io), B4 GAA1/IO01RSB0 (io), B5 IO14RSB0 (io), B6 IO19RSB0 (io), B7 IO22RSB0 (io), B8 IO30RSB0 (io), B9 GBB0/IO37RSB0 (io), B10 GBB1/IO38RSB0 (io), C5 IO12RSB0 (io), C6 IO17RSB0 (io), C7 IO24RSB0 (io), C8 IO31RSB0 (io), C9 IO34RSB0 (io), D5 GAC0/IO04RSB0 (io), D6 GAC1/IO05RSB0 (io), D7 GBC0/IO35RSB0 (io), D8 GBC1/IO36RSB0 (io)
part B pins: C10 GBA2/IO41PDB1 (io), C11 IO41NDB1 (io), C12 GBC2/IO43PPB1 (io), D9 GBB2/IO42PDB1 (io), D10 IO42NDB1 (io), D11 IO43NPB1 (io), D12 GCB1/IO49PPB1 (io), E8 GCC1/IO48PDB1 (io), E11 GCA0/IO50NDB1 (io), E12 IO51NDB1 (io), F8 GCC0/IO48NDB1 (io), F9 GCB0/IO49NPB1 (io), F11 GCA1/IO50PDB1 (io), F12 GCA2/IO51PDB1 (io), G8 GDC1/IO58UPB1 (io), G9 IO53NDB1 (io), G10 GCC2/IO53PDB1 (io), G11 IO52NDB1 (io), G12 GCB2/IO52PDB1 (io), H9 GDC0/IO58VPB1 (io), H11 IO54PSB1 (io), J11 GDA1/IO60UDB1 (io), J12 GDB1/IO59UDB1 (io), K11 GDA0/IO60VDB1 (io), K12 GDB0/IO59VDB1 (io)
part C pins: H6 IO79RSB2 (io), H7 IO65RSB2 (io), H8 GDB2/IO62RSB2 (io), J5 IO88RSB2 (io), J6 IO81RSB2 (io), J9 GDA2/IO61RSB2 (io), K4 GEA2/IO97RSB2 (io), K5 IO90RSB2 (io), K6 IO84RSB2 (io), K8 IO66RSB2 (io), K9 GDC2/IO63RSB2 (io), L3 FF/GEB2/IO96RSB2 (io), L4 IO91RSB2 (io), L6 IO82RSB2 (io), L7 IO80RSB2 (io), L8 IO72RSB2 (io), M2 GEC2/IO95RSB2 (io), M3 IO92RSB2 (io), M4 IO89RSB2 (io), M5 IO87RSB2 (io), M6 IO85RSB2 (io), M7 IO78RSB2 (io), M8 IO76RSB2 (io)
part D pins: B1 GAB2/IO117UDB3 (io), C1 IO117VDB3 (io), C2 GFA2/IO107PPB3 (io), C3 GAC2/IO116UDB3 (io), D1 IO112NDB3 (io), D2 IO112PDB3 (io), D3 IO116VDB3 (io), D4 GAA2/IO118UPB3 (io), E2 GFC0/IO110NDB3 (io), E3 GFC1/IO110PDB3 (io), E5 IO118VPB3 (io), F1 GFB0/IO109NPB3 (io), F3 GFB1/IO109PPB3 (io), F4 IO107NPB3 (io), G1 GFA1/IO108PPB3 (io), G4 GFA0/IO108NPB3 (io), H2 GFB2/IO106PDB3 (io), H3 GFC2/IO105PSB3 (io), H4 GEC1/IO100PDB3 (io), J1 GEB1/IO99PDB3 (io), J2 IO106NDB3 (io), J4 GEC0/IO100NDB3 (io), K1 GEB0/IO99NDB3 (io), K2 GEA1/IO98PDB3 (io), K3 GEA0/IO98NDB3 (io)
part E pins: J8 TCK (in), J10 TDO (out), L9 TMS (in), L12 TRST (in), M9 TDI (in)
part F pins: A2 VMV0 (power), A8 VCC (power), B12 VMV1 (power), C4 VCC (power), E1 VCC (power), E4 VCCIB3 (power), E6 VCCIB0 (power), E7 VCCIB0 (power), E9 VCCIB1 (power), E10 VCC (power), H1 VCC (power), H5 VCC (power), H10 VCCIB1 (power), H12 VCC (power), J3 VCCIB3 (power), J7 VCC (power), L2 VMV3 (power), L5 VCCIB2 (power), L10 VJTAG (power), L11 VMV2 (power), M10 VCCIB2 (power), M11 VPUMP (power)
part G pins: A1 GNDQ (power), A6 GND (power), A12 GNDQ (power), B2 GND (power), B11 GND (power), F5 GND (power), F6 GND (power), F7 GND (power), F10 GND (power), G2 GND (power), G5 GND (power), G6 GND (power), G7 GND (power), K7 GND (power), K10 GND (power), L1 GND (power), M1 GNDQ (power), M12 GNDQ (power)
part H pins: F2 VCOMPLF (power), G3 VCCPLF (power)
part A text: BANK 0
part B text: BANK 1
part C text: BANK 2
part D text: BANK 3

## A3P250L-1FGG256
designator U?
ProASIC3L Low-Power Flash Family FPGA, 157 User IOs, 250K System Gates, 36 Kbits RAM, 1 Kbit FlashROM, 1PLL, 256-Ball FBGA, Commercial Grade, Pb-Free; Published: 30-May-2008; DatasheetVersion: Jan-2008; PackageVersion: v10.0, Mar-2008; PackageReference: FG256; Publisher: Altium Limited; PackageDescription: 256-Ball Fine Pitch Plastic Ball Grid Array (FG256); Code_JEDEC: MO-192-DAF-1; ComponentLink1Description: Manufacturer Link; ComponentLink1URL: http://www.actel.com/products/pa3l/default.aspx; ComponentLink2Description: Datasheet; ComponentLink2URL: http://www.actel.com/documents/PA3L_DS.pdf; ComponentLink3Description: Packaging Specification; ComponentLink3URL: http://www.actel.com/documents/PckgMechDrwngs.pdf
footprint FG256 (BGA, 256-Leads, Body 17x17mm, Pitch 1mm)
3D model A3P250L-FG256 (256-Ball Fine Pitch Plastic Ball Grid Array (FG256))
signal-integrity model A3P250L_FG256 (ProASIC3L)
part A pins: A2 GAA0/IO00RSB0 (io), A3 GAA1/IO01RSB0 (io), A4 GAB0/IO02RSB0 (io), A5 IO07RSB0 (io), A6 IO10RSB0 (io), A7 IO11RSB0 (io), A8 IO15RSB0 (io), A9 IO20RSB0 (io), A10 IO25RSB0 (io), A11 IO29RSB0 (io), A12 IO33RSB0 (io), A13 GBB1/IO38RSB0 (io), A14 GBA0/IO39RSB0 (io), A15 GBA1/IO40RSB0 (io), B4 GAB1/IO03RSB0 (io), B5 IO06RSB0 (io), B6 IO09RSB0 (io), B7 IO12RSB0 (io), B8 IO16RSB0 (io), B9 IO21RSB0 (io), B10 IO26RSB0 (io), B11 IO30RSB0 (io), B12 GBC1/IO36RSB0 (io), B13 GBB0/IO37RSB0 (io), C5 GAC0/IO04RSB0 (io), C6 GAC1/IO05RSB0 (io), C7 IO13RSB0 (io), C8 IO17RSB0 (io), C9 IO22RSB0 (io), C10 IO27RSB0 (io), C11 IO31RSB0 (io), C12 GBC0/IO35RSB0 (io), C13 IO34RSB0 (io), D6 IO08RSB0 (io), D7 IO14RSB0 (io), D8 IO18RSB0 (io), D9 IO23RSB0 (io), D10 IO28RSB0 (io), D11 IO32RSB0 (io), E8 IO19RSB0 (io), E9 IO24RSB0 (io)
part B pins: B15 GBA2/IO41PDB1 (io), B16 IO41NDB1 (io), C15 IO42NPB1 (io), C16 IO44PDB1 (io), D14 GBB2/IO42PPB1 (io), D16 IO44NDB1 (io), E13 GBC2/IO43PDB1 (io), E14 IO46RSB1 (io), E16 IO45PDB1 (io), F13 IO43NDB1 (io), F15 IO47PPB1 (io), F16 IO45NDB1 (io), G13 GCC1/IO48PPB1 (io), G14 IO47NPB1 (io), G15 IO54PDB1 (io), G16 IO54NDB1 (io), H12 GCC0/IO48NPB1 (io), H13 GCB1/IO49PPB1 (io), H14 GCA0/IO50NPB1 (io), H16 GCB0/IO49NPB1 (io), J12 GCB2/IO52PPB1 (io), J13 GCA1/IO50PPB1 (io), J14 GCC2/IO53PPB1 (io), J16 GCA2/IO51PDB1 (io), K13 IO52NPB1 (io), K14 IO55RSB1 (io), K15 IO53NPB1 (io), K16 IO51NDB1 (io), L13 GDB0/IO59VPB1 (io), L14 IO57VDB1 (io), L15 IO57UDB1 (io), L16 IO56PDB1 (io), M14 GDB1/IO59UPB1 (io), M15 GDC1/IO58UDB1 (io), M16 IO56NDB1 (io), N15 GDC0/IO58VDB1 (io), N16 GDA1/IO60UDB1 (io), P16 GDA0/IO60VDB1 (io)
part C pins: M9 IO74RSB2 (io), N6 GEA2/IO97RSB2 (io), N7 IO86RSB2 (io), N8 IO82RSB2 (io), N9 IO75RSB2 (io), N10 IO69RSB2 (io), N11 IO64RSB2 (io), P5 IO92RSB2 (io), P6 IO89RSB2 (io), P7 IO85RSB2 (io), P8 IO81RSB2 (io), P9 IO76RSB2 (io), P10 IO71RSB2 (io), P11 IO66RSB2 (io), R4 GEC2/IO95RSB2 (io), R5 IO91RSB2 (io), R6 IO88RSB2 (io), R7 IO84RSB2 (io), R8 IO80RSB2 (io), R9 IO77RSB2 (io), R10 IO72RSB2 (io), R11 IO68RSB2 (io), R12 IO65RSB2 (io), R13 GDB2/IO62RSB2 (io), T2 IO94RSB2 (io), T3 FF/GEB2/IO96RSB2 (io), T4 IO93RSB2 (io), T5 IO90RSB2 (io), T6 IO87RSB2 (io), T7 IO83RSB2 (io), T8 IO79RSB2 (io), T9 IO78RSB2 (io), T10 IO73RSB2 (io), T11 IO70RSB2 (io), T12 GDC2/IO63RSB2 (io), T13 IO67RSB2 (io), T14 GDA2/IO61RSB2 (io)
part D pins: B1 GAB2/IO117UDB3 (io), B2 GAA2/IO118UDB3 (io), C1 IO117VDB3 (io), C2 IO118VDB3 (io), D1 IO114VDB3 (io), D2 IO114UDB3 (io), D3 GAC2/IO116UDB3 (io), E1 IO113PDB3 (io), E3 IO116VDB3 (io), E4 IO115UDB3 (io), F1 IO113NDB3 (io), F2 IO112PPB3 (io), F4 IO115VDB3 (io), G1 IO111NDB3 (io), G2 IO111PDB3 (io), G3 IO112NPB3 (io), G4 GFC1/IO110PPB3 (io), H1 GFB0/IO109NPB3 (io), H2 GFA0/IO108NDB3 (io), H3 GFB1/IO109PPB3 (io), H5 GFC0/IO110NPB3 (io), J1 GFA2/IO107PPB3 (io), J2 GFA1/IO108PDB3 (io), J4 IO106NDB3 (io), J5 GFB2/IO106PDB3 (io), K1 GFC2/IO105PDB3 (io), K2 IO107NPB3 (io), K3 IO104PPB3 (io), L1 IO105NDB3 (io), L2 IO104NPB3 (io), L4 IO102RSB3 (io), M1 IO103PDB3 (io), M3 IO101NPB3 (io), M4 GEC0/IO100NPB3 (io), N1 IO103NDB3 (io), N2 IO101PPB3 (io), N3 GEC1/IO100PPB3 (io), P1 GEB1/IO99PDB3 (io), P2 GEB0/IO99NDB3 (io), R1 GEA1/IO98PDB3 (io), R2 GEA0/IO98NDB3 (io)
part E pins: P13 TCK (in), P15 TRST (in), R14 TDI (in), R16 TDO (out), T15 TMS (in)
part F pins: E5 VMV0 (power), E6 VCCIB0 (power), E7 VCCIB0 (power), E10 VCCIB0 (power), E11 VCCIB0 (power), E12 VMV1 (power), F5 VCCIB3 (power), F7 VCC (power), F8 VCC (power), F9 VCC (power), F10 VCC (power), F12 VCCIB1 (power), G5 VCCIB3 (power), G6 VCC (power), G11 VCC (power), G12 VCCIB1 (power), H6 VCC (power), H11 VCC (power), J6 VCC (power), J11 VCC (power), K5 VCCIB3 (power), K6 VCC (power), K11 VCC (power), K12 VCCIB1 (power), L5 VCCIB3 (power), L7 VCC (power), L8 VCC (power), L9 VCC (power), L10 VCC (power), L12 VCCIB1 (power), M5 VMV3 (power), M6 VCCIB2 (power), M7 VCCIB2 (power), M10 VCCIB2 (power), M11 VCCIB2 (power), M12 VMV2 (power), N14 VJTAG (power), P14 VPUMP (power)
part G pins: A1 GND (power), A16 GND (power), D5 GNDQ (power), D12 GNDQ (power), F6 GND (power), F11 GND (power), G7 GND (power), G8 GND (power), G9 GND (power), G10 GND (power), H7 GND (power), H8 GND (power), H9 GND (power), H10 GND (power), J7 GND (power), J8 GND (power), J9 GND (power), J10 GND (power), K7 GND (power), K8 GND (power), K9 GND (power), K10 GND (power), L6 GND (power), L11 GND (power), N5 GNDQ (power), N12 GNDQ (power), T1 GND (power), T16 GND (power)
part H pins: H4 VCOMPLF (power), J3 VCCPLF (power)
part I pins: B3 NC, B14 NC, C3 NC, C4 NC, C14 NC, D4 NC, D13 NC, D15 NC, E2 NC, E15 NC, F3 NC, F14 NC, H15 NC, J15 NC, K4 NC, L3 NC, M2 NC, M8 NC, M13 NC, N4 NC, N13 NC, P3 NC, P4 NC, P12 NC, R3 NC, R15 NC
part A text: BANK 0
part B text: BANK 1
part C text: BANK 2
part D text: BANK 3

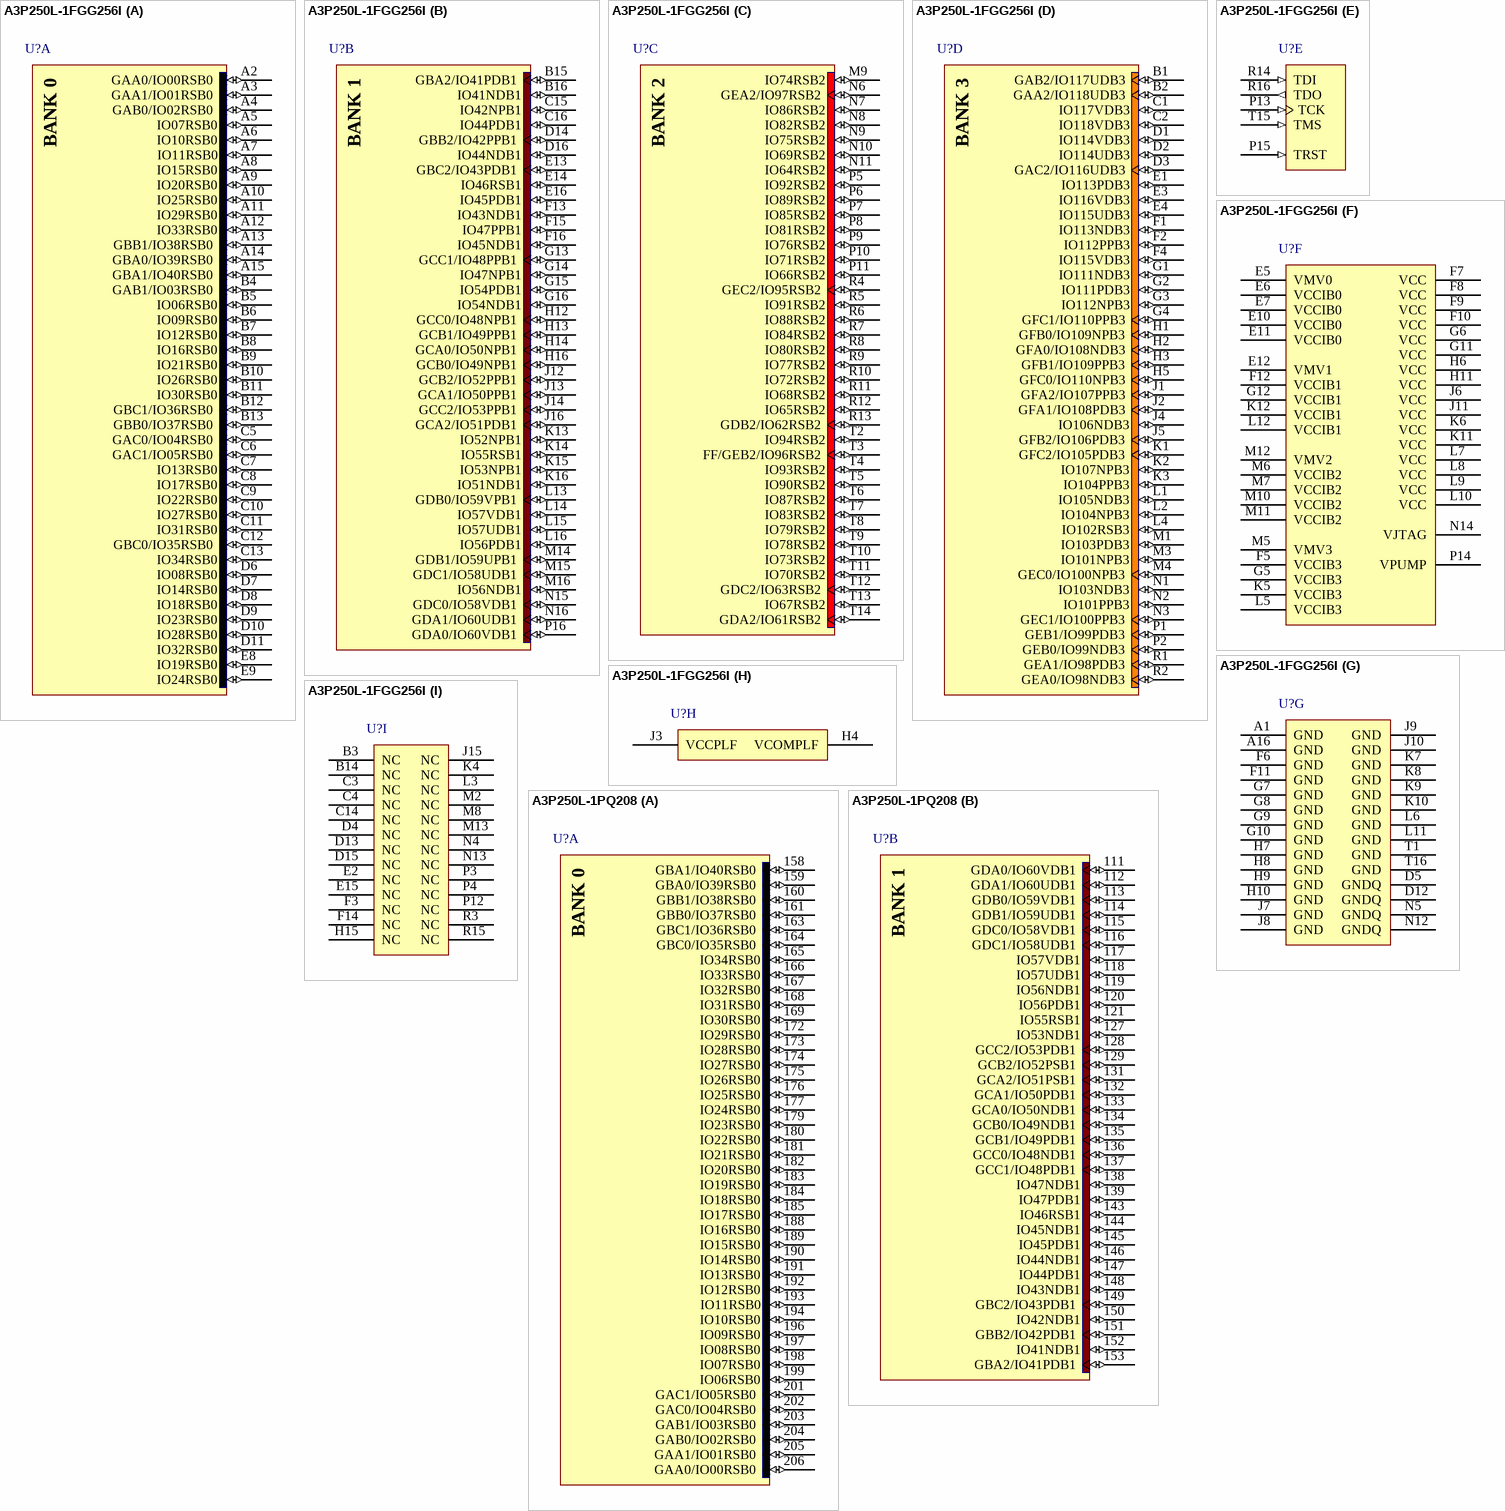
[diagram p4: symbols A3P250L-1FGG256I to A3P250L-1PQ208]

## A3P250L-1FGG256I
designator U?
ProASIC3L Low-Power Flash Family FPGA, 157 User IOs, 250K System Gates, 36 Kbits RAM, 1 Kbit FlashROM, 1PLL, 256-Ball FBGA, Industrial Grade, Pb-Free; Published: 30-May-2008; DatasheetVersion: Jan-2008; PackageVersion: v10.0, Mar-2008; PackageReference: FG256; Publisher: Altium Limited; PackageDescription: 256-Ball Fine Pitch Plastic Ball Grid Array (FG256); Code_JEDEC: MO-192-DAF-1; ComponentLink1Description: Manufacturer Link; ComponentLink1URL: http://www.actel.com/products/pa3l/default.aspx; ComponentLink2Description: Datasheet; ComponentLink2URL: http://www.actel.com/documents/PA3L_DS.pdf; ComponentLink3Description: Packaging Specification; ComponentLink3URL: http://www.actel.com/documents/PckgMechDrwngs.pdf
footprint FG256 (BGA, 256-Leads, Body 17x17mm, Pitch 1mm)
3D model A3P250L-FG256 (256-Ball Fine Pitch Plastic Ball Grid Array (FG256))
signal-integrity model A3P250L_FG256 (ProASIC3L)
part A pins: A2 GAA0/IO00RSB0 (io), A3 GAA1/IO01RSB0 (io), A4 GAB0/IO02RSB0 (io), A5 IO07RSB0 (io), A6 IO10RSB0 (io), A7 IO11RSB0 (io), A8 IO15RSB0 (io), A9 IO20RSB0 (io), A10 IO25RSB0 (io), A11 IO29RSB0 (io), A12 IO33RSB0 (io), A13 GBB1/IO38RSB0 (io), A14 GBA0/IO39RSB0 (io), A15 GBA1/IO40RSB0 (io), B4 GAB1/IO03RSB0 (io), B5 IO06RSB0 (io), B6 IO09RSB0 (io), B7 IO12RSB0 (io), B8 IO16RSB0 (io), B9 IO21RSB0 (io), B10 IO26RSB0 (io), B11 IO30RSB0 (io), B12 GBC1/IO36RSB0 (io), B13 GBB0/IO37RSB0 (io), C5 GAC0/IO04RSB0 (io), C6 GAC1/IO05RSB0 (io), C7 IO13RSB0 (io), C8 IO17RSB0 (io), C9 IO22RSB0 (io), C10 IO27RSB0 (io), C11 IO31RSB0 (io), C12 GBC0/IO35RSB0 (io), C13 IO34RSB0 (io), D6 IO08RSB0 (io), D7 IO14RSB0 (io), D8 IO18RSB0 (io), D9 IO23RSB0 (io), D10 IO28RSB0 (io), D11 IO32RSB0 (io), E8 IO19RSB0 (io), E9 IO24RSB0 (io)
part B pins: B15 GBA2/IO41PDB1 (io), B16 IO41NDB1 (io), C15 IO42NPB1 (io), C16 IO44PDB1 (io), D14 GBB2/IO42PPB1 (io), D16 IO44NDB1 (io), E13 GBC2/IO43PDB1 (io), E14 IO46RSB1 (io), E16 IO45PDB1 (io), F13 IO43NDB1 (io), F15 IO47PPB1 (io), F16 IO45NDB1 (io), G13 GCC1/IO48PPB1 (io), G14 IO47NPB1 (io), G15 IO54PDB1 (io), G16 IO54NDB1 (io), H12 GCC0/IO48NPB1 (io), H13 GCB1/IO49PPB1 (io), H14 GCA0/IO50NPB1 (io), H16 GCB0/IO49NPB1 (io), J12 GCB2/IO52PPB1 (io), J13 GCA1/IO50PPB1 (io), J14 GCC2/IO53PPB1 (io), J16 GCA2/IO51PDB1 (io), K13 IO52NPB1 (io), K14 IO55RSB1 (io), K15 IO53NPB1 (io), K16 IO51NDB1 (io), L13 GDB0/IO59VPB1 (io), L14 IO57VDB1 (io), L15 IO57UDB1 (io), L16 IO56PDB1 (io), M14 GDB1/IO59UPB1 (io), M15 GDC1/IO58UDB1 (io), M16 IO56NDB1 (io), N15 GDC0/IO58VDB1 (io), N16 GDA1/IO60UDB1 (io), P16 GDA0/IO60VDB1 (io)
part C pins: M9 IO74RSB2 (io), N6 GEA2/IO97RSB2 (io), N7 IO86RSB2 (io), N8 IO82RSB2 (io), N9 IO75RSB2 (io), N10 IO69RSB2 (io), N11 IO64RSB2 (io), P5 IO92RSB2 (io), P6 IO89RSB2 (io), P7 IO85RSB2 (io), P8 IO81RSB2 (io), P9 IO76RSB2 (io), P10 IO71RSB2 (io), P11 IO66RSB2 (io), R4 GEC2/IO95RSB2 (io), R5 IO91RSB2 (io), R6 IO88RSB2 (io), R7 IO84RSB2 (io), R8 IO80RSB2 (io), R9 IO77RSB2 (io), R10 IO72RSB2 (io), R11 IO68RSB2 (io), R12 IO65RSB2 (io), R13 GDB2/IO62RSB2 (io), T2 IO94RSB2 (io), T3 FF/GEB2/IO96RSB2 (io), T4 IO93RSB2 (io), T5 IO90RSB2 (io), T6 IO87RSB2 (io), T7 IO83RSB2 (io), T8 IO79RSB2 (io), T9 IO78RSB2 (io), T10 IO73RSB2 (io), T11 IO70RSB2 (io), T12 GDC2/IO63RSB2 (io), T13 IO67RSB2 (io), T14 GDA2/IO61RSB2 (io)
part D pins: B1 GAB2/IO117UDB3 (io), B2 GAA2/IO118UDB3 (io), C1 IO117VDB3 (io), C2 IO118VDB3 (io), D1 IO114VDB3 (io), D2 IO114UDB3 (io), D3 GAC2/IO116UDB3 (io), E1 IO113PDB3 (io), E3 IO116VDB3 (io), E4 IO115UDB3 (io), F1 IO113NDB3 (io), F2 IO112PPB3 (io), F4 IO115VDB3 (io), G1 IO111NDB3 (io), G2 IO111PDB3 (io), G3 IO112NPB3 (io), G4 GFC1/IO110PPB3 (io), H1 GFB0/IO109NPB3 (io), H2 GFA0/IO108NDB3 (io), H3 GFB1/IO109PPB3 (io), H5 GFC0/IO110NPB3 (io), J1 GFA2/IO107PPB3 (io), J2 GFA1/IO108PDB3 (io), J4 IO106NDB3 (io), J5 GFB2/IO106PDB3 (io), K1 GFC2/IO105PDB3 (io), K2 IO107NPB3 (io), K3 IO104PPB3 (io), L1 IO105NDB3 (io), L2 IO104NPB3 (io), L4 IO102RSB3 (io), M1 IO103PDB3 (io), M3 IO101NPB3 (io), M4 GEC0/IO100NPB3 (io), N1 IO103NDB3 (io), N2 IO101PPB3 (io), N3 GEC1/IO100PPB3 (io), P1 GEB1/IO99PDB3 (io), P2 GEB0/IO99NDB3 (io), R1 GEA1/IO98PDB3 (io), R2 GEA0/IO98NDB3 (io)
part E pins: P13 TCK (in), P15 TRST (in), R14 TDI (in), R16 TDO (out), T15 TMS (in)
part F pins: E5 VMV0 (power), E6 VCCIB0 (power), E7 VCCIB0 (power), E10 VCCIB0 (power), E11 VCCIB0 (power), E12 VMV1 (power), F5 VCCIB3 (power), F7 VCC (power), F8 VCC (power), F9 VCC (power), F10 VCC (power), F12 VCCIB1 (power), G5 VCCIB3 (power), G6 VCC (power), G11 VCC (power), G12 VCCIB1 (power), H6 VCC (power), H11 VCC (power), J6 VCC (power), J11 VCC (power), K5 VCCIB3 (power), K6 VCC (power), K11 VCC (power), K12 VCCIB1 (power), L5 VCCIB3 (power), L7 VCC (power), L8 VCC (power), L9 VCC (power), L10 VCC (power), L12 VCCIB1 (power), M5 VMV3 (power), M6 VCCIB2 (power), M7 VCCIB2 (power), M10 VCCIB2 (power), M11 VCCIB2 (power), M12 VMV2 (power), N14 VJTAG (power), P14 VPUMP (power)
part G pins: A1 GND (power), A16 GND (power), D5 GNDQ (power), D12 GNDQ (power), F6 GND (power), F11 GND (power), G7 GND (power), G8 GND (power), G9 GND (power), G10 GND (power), H7 GND (power), H8 GND (power), H9 GND (power), H10 GND (power), J7 GND (power), J8 GND (power), J9 GND (power), J10 GND (power), K7 GND (power), K8 GND (power), K9 GND (power), K10 GND (power), L6 GND (power), L11 GND (power), N5 GNDQ (power), N12 GNDQ (power), T1 GND (power), T16 GND (power)
part H pins: H4 VCOMPLF (power), J3 VCCPLF (power)
part I pins: B3 NC, B14 NC, C3 NC, C4 NC, C14 NC, D4 NC, D13 NC, D15 NC, E2 NC, E15 NC, F3 NC, F14 NC, H15 NC, J15 NC, K4 NC, L3 NC, M2 NC, M8 NC, M13 NC, N4 NC, N13 NC, P3 NC, P4 NC, P12 NC, R3 NC, R15 NC
part A text: BANK 0
part B text: BANK 1
part C text: BANK 2
part D text: BANK 3

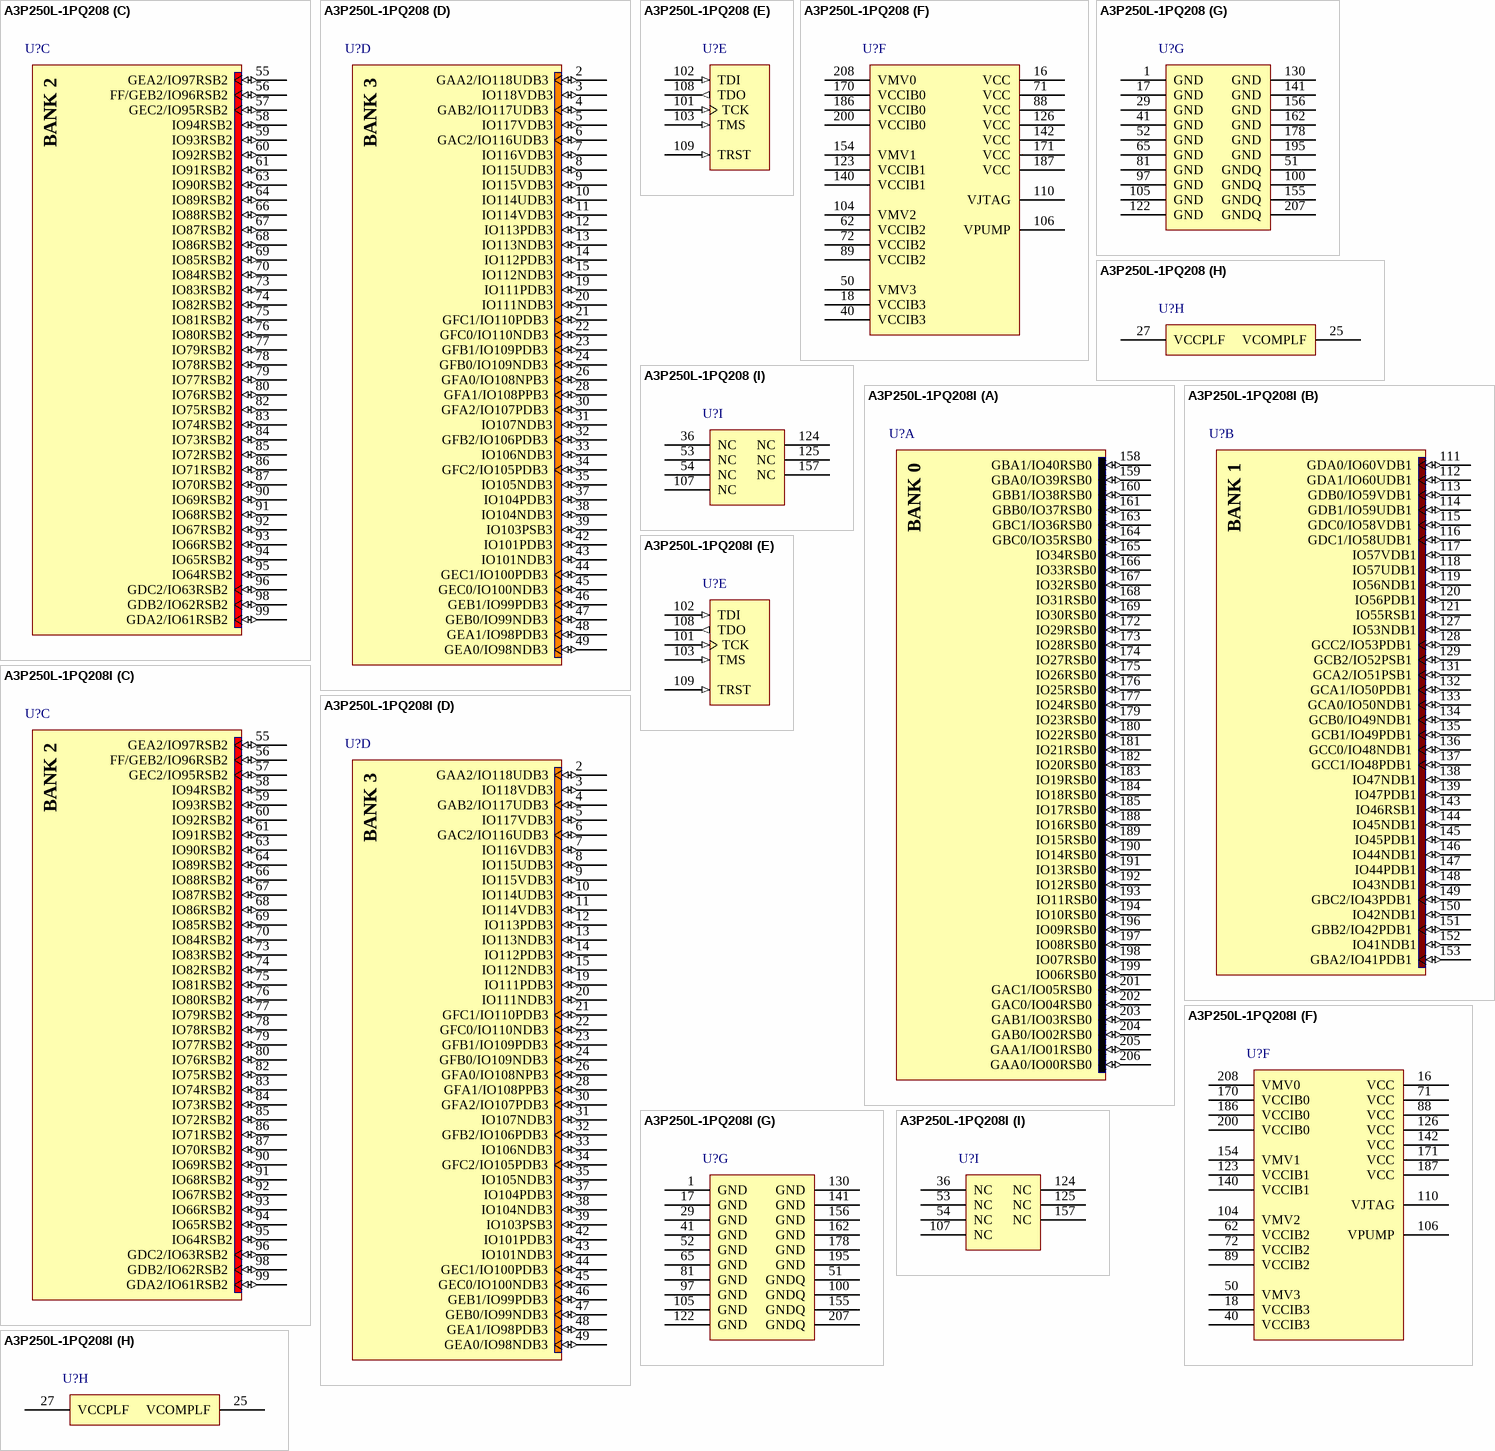
[diagram p5: symbols A3P250L-1PQ208 to A3P250L-1PQ208I]

## A3P250L-1PQ208
designator U?
ProASIC3L Low-Power Flash Family FPGA, 151 User IOs, 250K System Gates, 36 Kbits RAM, 1 Kbit FlashROM, 1PLL, 208-Pin PQFP, Commercial Grade; Published: 30-May-2008; DatasheetVersion: Jan-2008; PackageVersion: v10.0, Mar-2008; PackageReference: PQ208; Publisher: Altium Limited; PackageDescription: 208-Pin Plastic Quad Flat Pack (PQ208); Code_JEDEC: MS-029-FA-1; ComponentLink1Description: Manufacturer Link; ComponentLink1URL: http://www.actel.com/products/pa3l/default.aspx; ComponentLink2Description: Datasheet; ComponentLink2URL: http://www.actel.com/documents/PA3L_DS.pdf; ComponentLink3Description: Packaging Specification; ComponentLink3URL: http://www.actel.com/documents/PckgMechDrwngs.pdf
footprint PQ208_N (Shrink QFP, 208-Leads, Body 28x28mm, Pitch 0.5mm, IPC Medium Density)
footprint PQ208_L (Shrink QFP, 208-Leads, Body 28x28mm, Pitch 0.5mm, IPC High Density)
footprint PQ208_M (Shrink QFP, 208-Leads, Body 28x28mm, Pitch 0.5mm, IPC Low Density)
3D model A3P250L-PQ208 (208-Pin Plastic Quad Flat Pack (PQ208))
signal-integrity model A3P250L_PQ208 (ProASIC3L)
part A pins: 158 GBA1/IO40RSB0 (io), 159 GBA0/IO39RSB0 (io), 160 GBB1/IO38RSB0 (io), 161 GBB0/IO37RSB0 (io), 163 GBC1/IO36RSB0 (io), 164 GBC0/IO35RSB0 (io), 165 IO34RSB0 (io), 166 IO33RSB0 (io), 167 IO32RSB0 (io), 168 IO31RSB0 (io), 169 IO30RSB0 (io), 172 IO29RSB0 (io), 173 IO28RSB0 (io), 174 IO27RSB0 (io), 175 IO26RSB0 (io), 176 IO25RSB0 (io), 177 IO24RSB0 (io), 179 IO23RSB0 (io), 180 IO22RSB0 (io), 181 IO21RSB0 (io), 182 IO20RSB0 (io), 183 IO19RSB0 (io), 184 IO18RSB0 (io), 185 IO17RSB0 (io), 188 IO16RSB0 (io), 189 IO15RSB0 (io), 190 IO14RSB0 (io), 191 IO13RSB0 (io), 192 IO12RSB0 (io), 193 IO11RSB0 (io), 194 IO10RSB0 (io), 196 IO09RSB0 (io), 197 IO08RSB0 (io), 198 IO07RSB0 (io), 199 IO06RSB0 (io), 201 GAC1/IO05RSB0 (io), 202 GAC0/IO04RSB0 (io), 203 GAB1/IO03RSB0 (io), 204 GAB0/IO02RSB0 (io), 205 GAA1/IO01RSB0 (io), 206 GAA0/IO00RSB0 (io)
part B pins: 111 GDA0/IO60VDB1 (io), 112 GDA1/IO60UDB1 (io), 113 GDB0/IO59VDB1 (io), 114 GDB1/IO59UDB1 (io), 115 GDC0/IO58VDB1 (io), 116 GDC1/IO58UDB1 (io), 117 IO57VDB1 (io), 118 IO57UDB1 (io), 119 IO56NDB1 (io), 120 IO56PDB1 (io), 121 IO55RSB1 (io), 127 IO53NDB1 (io), 128 GCC2/IO53PDB1 (io), 129 GCB2/IO52PSB1 (io), 131 GCA2/IO51PSB1 (io), 132 GCA1/IO50PDB1 (io), 133 GCA0/IO50NDB1 (io), 134 GCB0/IO49NDB1 (io), 135 GCB1/IO49PDB1 (io), 136 GCC0/IO48NDB1 (io), 137 GCC1/IO48PDB1 (io), 138 IO47NDB1 (io), 139 IO47PDB1 (io), 143 IO46RSB1 (io), 144 IO45NDB1 (io), 145 IO45PDB1 (io), 146 IO44NDB1 (io), 147 IO44PDB1 (io), 148 IO43NDB1 (io), 149 GBC2/IO43PDB1 (io), 150 IO42NDB1 (io), 151 GBB2/IO42PDB1 (io), 152 IO41NDB1 (io), 153 GBA2/IO41PDB1 (io)
part C pins: 55 GEA2/IO97RSB2 (io), 56 FF/GEB2/IO96RSB2 (io), 57 GEC2/IO95RSB2 (io), 58 IO94RSB2 (io), 59 IO93RSB2 (io), 60 IO92RSB2 (io), 61 IO91RSB2 (io), 63 IO90RSB2 (io), 64 IO89RSB2 (io), 66 IO88RSB2 (io), 67 IO87RSB2 (io), 68 IO86RSB2 (io), 69 IO85RSB2 (io), 70 IO84RSB2 (io), 73 IO83RSB2 (io), 74 IO82RSB2 (io), 75 IO81RSB2 (io), 76 IO80RSB2 (io), 77 IO79RSB2 (io), 78 IO78RSB2 (io), 79 IO77RSB2 (io), 80 IO76RSB2 (io), 82 IO75RSB2 (io), 83 IO74RSB2 (io), 84 IO73RSB2 (io), 85 IO72RSB2 (io), 86 IO71RSB2 (io), 87 IO70RSB2 (io), 90 IO69RSB2 (io), 91 IO68RSB2 (io), 92 IO67RSB2 (io), 93 IO66RSB2 (io), 94 IO65RSB2 (io), 95 IO64RSB2 (io), 96 GDC2/IO63RSB2 (io), 98 GDB2/IO62RSB2 (io), 99 GDA2/IO61RSB2 (io)
part D pins: 2 GAA2/IO118UDB3 (io), 3 IO118VDB3 (io), 4 GAB2/IO117UDB3 (io), 5 IO117VDB3 (io), 6 GAC2/IO116UDB3 (io), 7 IO116VDB3 (io), 8 IO115UDB3 (io), 9 IO115VDB3 (io), 10 IO114UDB3 (io), 11 IO114VDB3 (io), 12 IO113PDB3 (io), 13 IO113NDB3 (io), 14 IO112PDB3 (io), 15 IO112NDB3 (io), 19 IO111PDB3 (io), 20 IO111NDB3 (io), 21 GFC1/IO110PDB3 (io), 22 GFC0/IO110NDB3 (io), 23 GFB1/IO109PDB3 (io), 24 GFB0/IO109NDB3 (io), 26 GFA0/IO108NPB3 (io), 28 GFA1/IO108PPB3 (io), 30 GFA2/IO107PDB3 (io), 31 IO107NDB3 (io), 32 GFB2/IO106PDB3 (io), 33 IO106NDB3 (io), 34 GFC2/IO105PDB3 (io), 35 IO105NDB3 (io), 37 IO104PDB3 (io), 38 IO104NDB3 (io), 39 IO103PSB3 (io), 42 IO101PDB3 (io), 43 IO101NDB3 (io), 44 GEC1/IO100PDB3 (io), 45 GEC0/IO100NDB3 (io), 46 GEB1/IO99PDB3 (io), 47 GEB0/IO99NDB3 (io), 48 GEA1/IO98PDB3 (io), 49 GEA0/IO98NDB3 (io)
part E pins: 101 TCK (in), 102 TDI (in), 103 TMS (in), 108 TDO (out), 109 TRST (in)
part F pins: 16 VCC (power), 18 VCCIB3 (power), 40 VCCIB3 (power), 50 VMV3 (power), 62 VCCIB2 (power), 71 VCC (power), 72 VCCIB2 (power), 88 VCC (power), 89 VCCIB2 (power), 104 VMV2 (power), 106 VPUMP (power), 110 VJTAG (power), 123 VCCIB1 (power), 126 VCC (power), 140 VCCIB1 (power), 142 VCC (power), 154 VMV1 (power), 170 VCCIB0 (power), 171 VCC (power), 186 VCCIB0 (power), 187 VCC (power), 200 VCCIB0 (power), 208 VMV0 (power)
part G pins: 1 GND (power), 17 GND (power), 29 GND (power), 41 GND (power), 51 GNDQ (power), 52 GND (power), 65 GND (power), 81 GND (power), 97 GND (power), 100 GNDQ (power), 105 GND (power), 122 GND (power), 130 GND (power), 141 GND (power), 155 GNDQ (power), 156 GND (power), 162 GND (power), 178 GND (power), 195 GND (power), 207 GNDQ (power)
part H pins: 25 VCOMPLF (power), 27 VCCPLF (power)
part I pins: 36 NC, 53 NC, 54 NC, 107 NC, 124 NC, 125 NC, 157 NC
part A text: BANK 0
part B text: BANK 1
part C text: BANK 2
part D text: BANK 3

## A3P250L-1PQ208I
designator U?
ProASIC3L Low-Power Flash Family FPGA, 151 User IOs, 250K System Gates, 36 Kbits RAM, 1 Kbit FlashROM, 1PLL, 208-Pin PQFP, Industrial Grade; Published: 30-May-2008; DatasheetVersion: Jan-2008; PackageVersion: v10.0, Mar-2008; PackageReference: PQ208; Publisher: Altium Limited; PackageDescription: 208-Pin Plastic Quad Flat Pack (PQ208); Code_JEDEC: MS-029-FA-1; ComponentLink1Description: Manufacturer Link; ComponentLink1URL: http://www.actel.com/products/pa3l/default.aspx; ComponentLink2Description: Datasheet; ComponentLink2URL: http://www.actel.com/documents/PA3L_DS.pdf; ComponentLink3Description: Packaging Specification; ComponentLink3URL: http://www.actel.com/documents/PckgMechDrwngs.pdf
footprint PQ208_N (Shrink QFP, 208-Leads, Body 28x28mm, Pitch 0.5mm, IPC Medium Density)
footprint PQ208_L (Shrink QFP, 208-Leads, Body 28x28mm, Pitch 0.5mm, IPC High Density)
footprint PQ208_M (Shrink QFP, 208-Leads, Body 28x28mm, Pitch 0.5mm, IPC Low Density)
3D model A3P250L-PQ208 (208-Pin Plastic Quad Flat Pack (PQ208))
signal-integrity model A3P250L_PQ208 (ProASIC3L)
part A pins: 158 GBA1/IO40RSB0 (io), 159 GBA0/IO39RSB0 (io), 160 GBB1/IO38RSB0 (io), 161 GBB0/IO37RSB0 (io), 163 GBC1/IO36RSB0 (io), 164 GBC0/IO35RSB0 (io), 165 IO34RSB0 (io), 166 IO33RSB0 (io), 167 IO32RSB0 (io), 168 IO31RSB0 (io), 169 IO30RSB0 (io), 172 IO29RSB0 (io), 173 IO28RSB0 (io), 174 IO27RSB0 (io), 175 IO26RSB0 (io), 176 IO25RSB0 (io), 177 IO24RSB0 (io), 179 IO23RSB0 (io), 180 IO22RSB0 (io), 181 IO21RSB0 (io), 182 IO20RSB0 (io), 183 IO19RSB0 (io), 184 IO18RSB0 (io), 185 IO17RSB0 (io), 188 IO16RSB0 (io), 189 IO15RSB0 (io), 190 IO14RSB0 (io), 191 IO13RSB0 (io), 192 IO12RSB0 (io), 193 IO11RSB0 (io), 194 IO10RSB0 (io), 196 IO09RSB0 (io), 197 IO08RSB0 (io), 198 IO07RSB0 (io), 199 IO06RSB0 (io), 201 GAC1/IO05RSB0 (io), 202 GAC0/IO04RSB0 (io), 203 GAB1/IO03RSB0 (io), 204 GAB0/IO02RSB0 (io), 205 GAA1/IO01RSB0 (io), 206 GAA0/IO00RSB0 (io)
part B pins: 111 GDA0/IO60VDB1 (io), 112 GDA1/IO60UDB1 (io), 113 GDB0/IO59VDB1 (io), 114 GDB1/IO59UDB1 (io), 115 GDC0/IO58VDB1 (io), 116 GDC1/IO58UDB1 (io), 117 IO57VDB1 (io), 118 IO57UDB1 (io), 119 IO56NDB1 (io), 120 IO56PDB1 (io), 121 IO55RSB1 (io), 127 IO53NDB1 (io), 128 GCC2/IO53PDB1 (io), 129 GCB2/IO52PSB1 (io), 131 GCA2/IO51PSB1 (io), 132 GCA1/IO50PDB1 (io), 133 GCA0/IO50NDB1 (io), 134 GCB0/IO49NDB1 (io), 135 GCB1/IO49PDB1 (io), 136 GCC0/IO48NDB1 (io), 137 GCC1/IO48PDB1 (io), 138 IO47NDB1 (io), 139 IO47PDB1 (io), 143 IO46RSB1 (io), 144 IO45NDB1 (io), 145 IO45PDB1 (io), 146 IO44NDB1 (io), 147 IO44PDB1 (io), 148 IO43NDB1 (io), 149 GBC2/IO43PDB1 (io), 150 IO42NDB1 (io), 151 GBB2/IO42PDB1 (io), 152 IO41NDB1 (io), 153 GBA2/IO41PDB1 (io)
part C pins: 55 GEA2/IO97RSB2 (io), 56 FF/GEB2/IO96RSB2 (io), 57 GEC2/IO95RSB2 (io), 58 IO94RSB2 (io), 59 IO93RSB2 (io), 60 IO92RSB2 (io), 61 IO91RSB2 (io), 63 IO90RSB2 (io), 64 IO89RSB2 (io), 66 IO88RSB2 (io), 67 IO87RSB2 (io), 68 IO86RSB2 (io), 69 IO85RSB2 (io), 70 IO84RSB2 (io), 73 IO83RSB2 (io), 74 IO82RSB2 (io), 75 IO81RSB2 (io), 76 IO80RSB2 (io), 77 IO79RSB2 (io), 78 IO78RSB2 (io), 79 IO77RSB2 (io), 80 IO76RSB2 (io), 82 IO75RSB2 (io), 83 IO74RSB2 (io), 84 IO73RSB2 (io), 85 IO72RSB2 (io), 86 IO71RSB2 (io), 87 IO70RSB2 (io), 90 IO69RSB2 (io), 91 IO68RSB2 (io), 92 IO67RSB2 (io), 93 IO66RSB2 (io), 94 IO65RSB2 (io), 95 IO64RSB2 (io), 96 GDC2/IO63RSB2 (io), 98 GDB2/IO62RSB2 (io), 99 GDA2/IO61RSB2 (io)
part D pins: 2 GAA2/IO118UDB3 (io), 3 IO118VDB3 (io), 4 GAB2/IO117UDB3 (io), 5 IO117VDB3 (io), 6 GAC2/IO116UDB3 (io), 7 IO116VDB3 (io), 8 IO115UDB3 (io), 9 IO115VDB3 (io), 10 IO114UDB3 (io), 11 IO114VDB3 (io), 12 IO113PDB3 (io), 13 IO113NDB3 (io), 14 IO112PDB3 (io), 15 IO112NDB3 (io), 19 IO111PDB3 (io), 20 IO111NDB3 (io), 21 GFC1/IO110PDB3 (io), 22 GFC0/IO110NDB3 (io), 23 GFB1/IO109PDB3 (io), 24 GFB0/IO109NDB3 (io), 26 GFA0/IO108NPB3 (io), 28 GFA1/IO108PPB3 (io), 30 GFA2/IO107PDB3 (io), 31 IO107NDB3 (io), 32 GFB2/IO106PDB3 (io), 33 IO106NDB3 (io), 34 GFC2/IO105PDB3 (io), 35 IO105NDB3 (io), 37 IO104PDB3 (io), 38 IO104NDB3 (io), 39 IO103PSB3 (io), 42 IO101PDB3 (io), 43 IO101NDB3 (io), 44 GEC1/IO100PDB3 (io), 45 GEC0/IO100NDB3 (io), 46 GEB1/IO99PDB3 (io), 47 GEB0/IO99NDB3 (io), 48 GEA1/IO98PDB3 (io), 49 GEA0/IO98NDB3 (io)
part E pins: 101 TCK (in), 102 TDI (in), 103 TMS (in), 108 TDO (out), 109 TRST (in)
part F pins: 16 VCC (power), 18 VCCIB3 (power), 40 VCCIB3 (power), 50 VMV3 (power), 62 VCCIB2 (power), 71 VCC (power), 72 VCCIB2 (power), 88 VCC (power), 89 VCCIB2 (power), 104 VMV2 (power), 106 VPUMP (power), 110 VJTAG (power), 123 VCCIB1 (power), 126 VCC (power), 140 VCCIB1 (power), 142 VCC (power), 154 VMV1 (power), 170 VCCIB0 (power), 171 VCC (power), 186 VCCIB0 (power), 187 VCC (power), 200 VCCIB0 (power), 208 VMV0 (power)
part G pins: 1 GND (power), 17 GND (power), 29 GND (power), 41 GND (power), 51 GNDQ (power), 52 GND (power), 65 GND (power), 81 GND (power), 97 GND (power), 100 GNDQ (power), 105 GND (power), 122 GND (power), 130 GND (power), 141 GND (power), 155 GNDQ (power), 156 GND (power), 162 GND (power), 178 GND (power), 195 GND (power), 207 GNDQ (power)
part H pins: 25 VCOMPLF (power), 27 VCCPLF (power)
part I pins: 36 NC, 53 NC, 54 NC, 107 NC, 124 NC, 125 NC, 157 NC
part A text: BANK 0
part B text: BANK 1
part C text: BANK 2
part D text: BANK 3

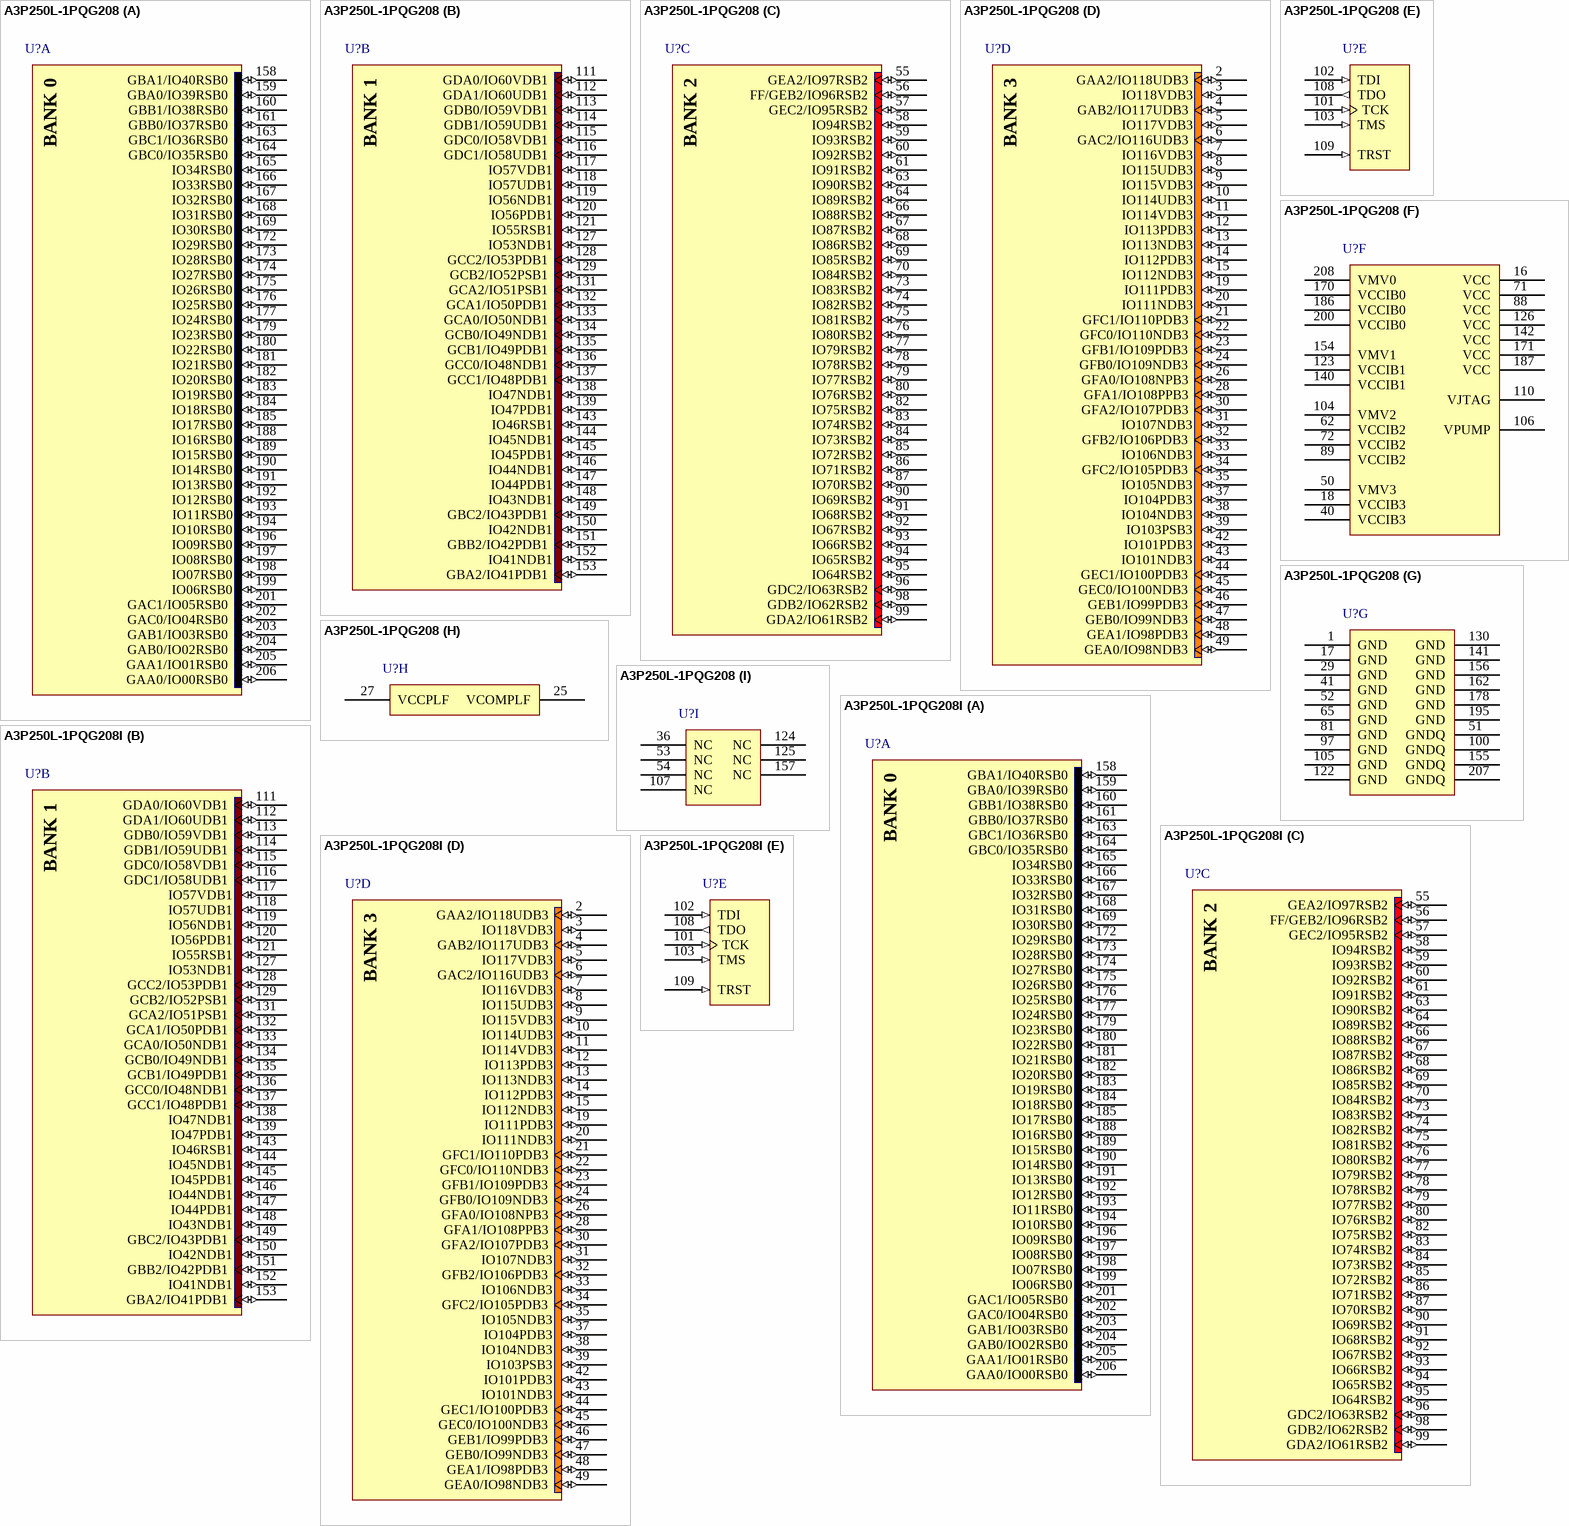
[diagram p6: symbols A3P250L-1PQG208 to A3P250L-1PQG208I]